# Altium schematic symbol library Supernova.SchLib: 142 symbols (part 1 of 2)
Pins are listed as number, name and electrical type; pins without a type are passive.

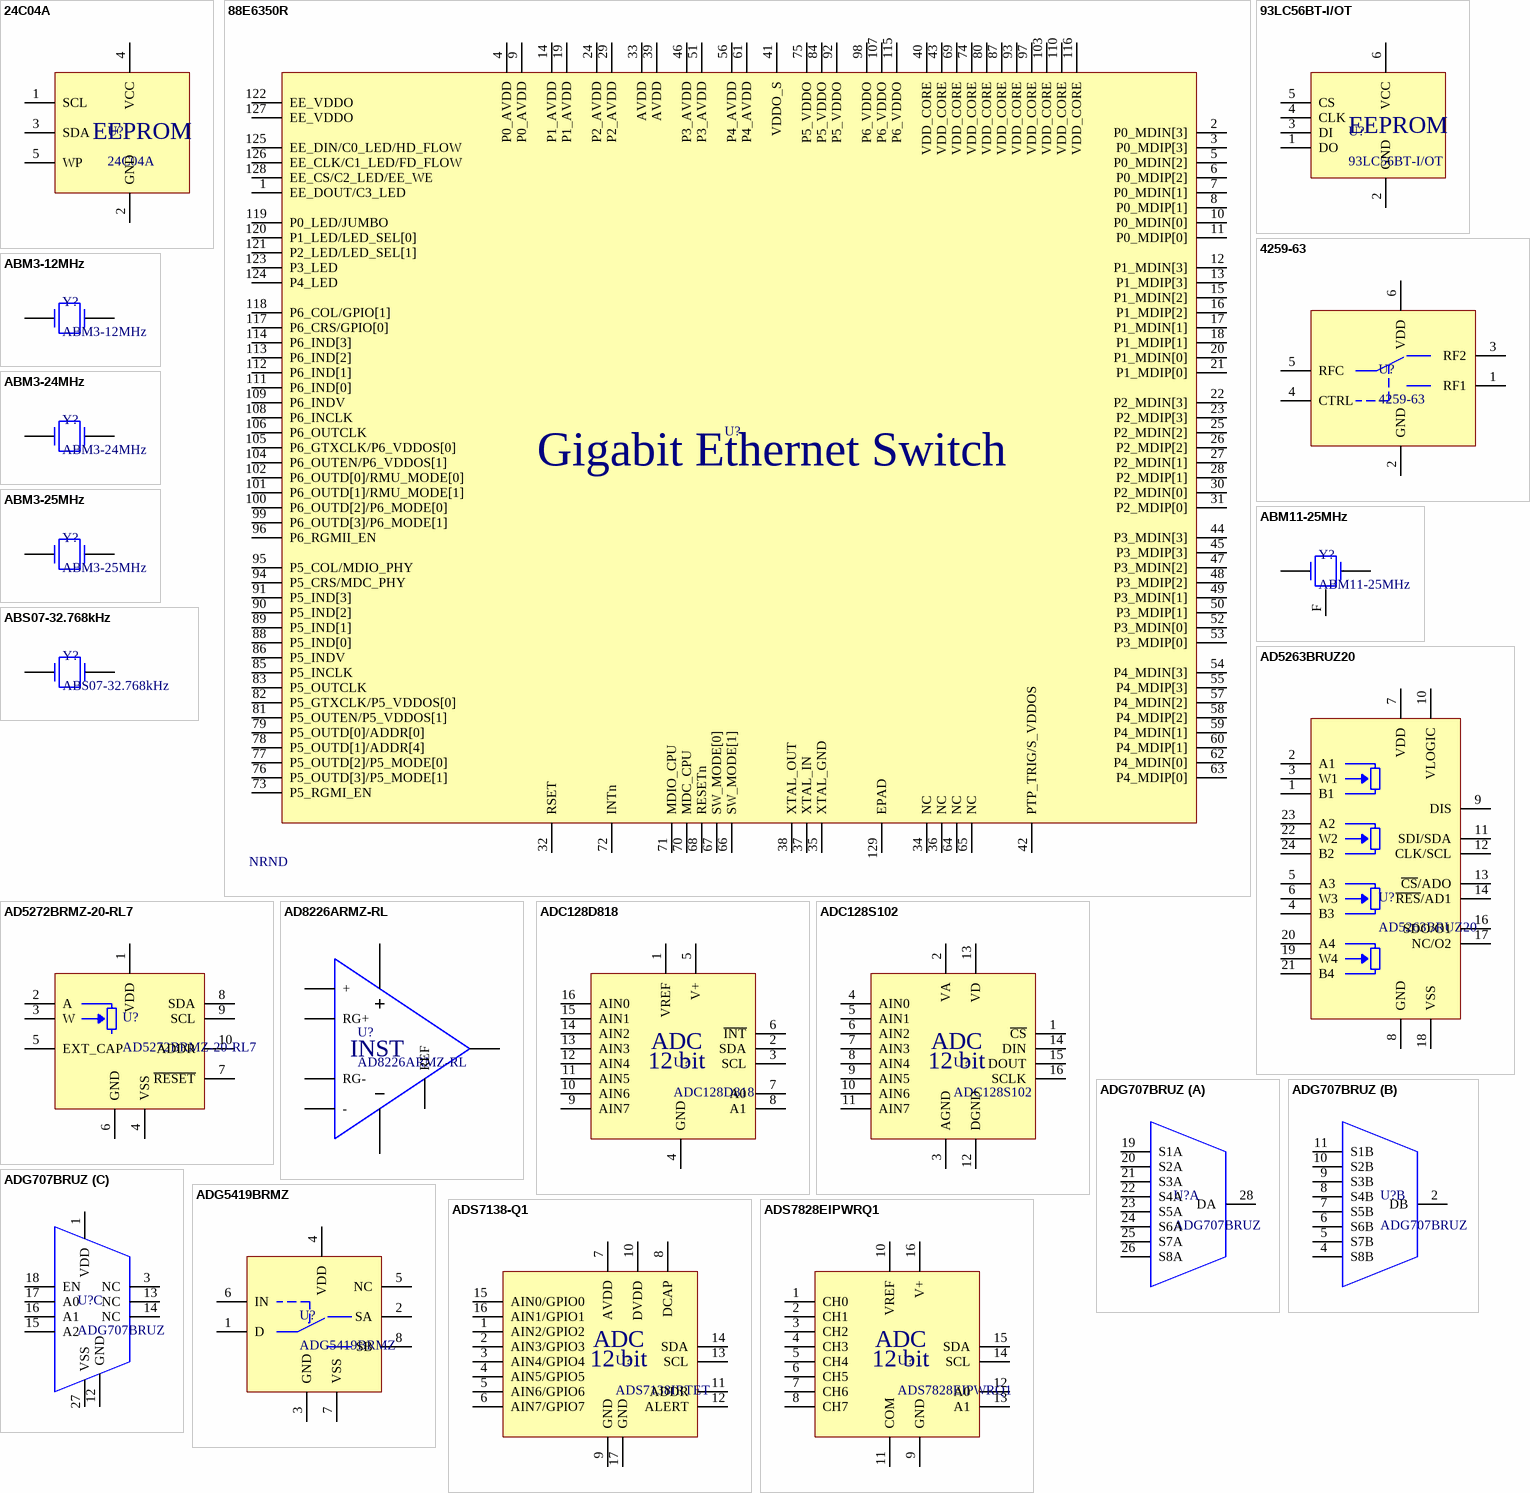
[diagram p0: symbols 24C04A to ADS7828EIPWRQ1]

## 24C04A
designator U?
IC Memory 4KB EEPROM; Supplier 1: Digi-Key; Supplier Part Number 1: 1219-1066-1-ND; Supplier 2: Digi-Key; Supplier 3: Digi-Key; Supplier Part Number 2: 1662-2727-1-ND; Supplier Part Number 3: AT24CS04-STUM-TCT-ND
footprint SOT23-5 (SOT23, 5-Leads, Body 2.90x2.45mm, Pitch 0.95mm, IPC Medium Density)
pins: 1 SCL, 2 GND, 3 SDA, 4 VCC, 5 WP
text: EEPROM

## 88E6350R
designator U?  (value not drawn)
IC Ethernet Switch, 5 port Gigabit; NRND: NRND
footprint LQFP-128 EP 0.4mm (TSQFP, 128-Leads, Body 14.00x14.00mm, Pitch 0.40mm, Thermal Pad 5.41x6.29mm, IPC Medium Density)
pins: 1 EE_DOUT/C3_LED, 2 P0_MDIN[3], 3 P0_MDIP[3], 4 P0_AVDD, 5 P0_MDIN[2], 6 P0_MDIP[2], 7 P0_MDIN[1], 8 P0_MDIP[1], 9 P0_AVDD, 10 P0_MDIN[0], 11 P0_MDIP[0], 12 P1_MDIN[3], 13 P1_MDIP[3], 14 P1_AVDD, 15 P1_MDIN[2], 16 P1_MDIP[2], 17 P1_MDIN[1], 18 P1_MDIP[1], 19 P1_AVDD, 20 P1_MDIN[0], 21 P1_MDIP[0], 22 P2_MDIN[3], 23 P2_MDIP[3], 24 P2_AVDD, 25 P2_MDIN[2], 26 P2_MDIP[2], 27 P2_MDIN[1], 28 P2_MDIP[1], 29 P2_AVDD, 30 P2_MDIN[0], 31 P2_MDIP[0], 32 RSET, 33 AVDD, 34 NC, 35 XTAL_GND, 36 NC, 37 XTAL_IN, 38 XTAL_OUT, 39 AVDD, 40 VDD_CORE, 41 VDDO_S, 42 PTP_TRIG/S_VDDOS, 43 VDD_CORE, 44 P3_MDIN[3], 45 P3_MDIP[3], 46 P3_AVDD, 47 P3_MDIN[2], 48 P3_MDIP[2], 49 P3_MDIN[1], 50 P3_MDIP[1], 51 P3_AVDD, 52 P3_MDIN[0], 53 P3_MDIP[0], 54 P4_MDIN[3], 55 P4_MDIP[3], 56 P4_AVDD, 57 P4_MDIN[2], 58 P4_MDIP[2], 59 P4_MDIN[1], 60 P4_MDIP[1], 61 P4_AVDD, 62 P4_MDIN[0], 63 P4_MDIP[0], 64 NC, 65 NC, 66 SW_MODE[1], 67 SW_MODE[0], 68 RESETn, 69 VDD_CORE, 70 MDC_CPU, 71 MDIO_CPU, 72 INTn, 73 P5_RGMI_EN, 74 VDD_CORE, 75 P5_VDDO, 76 P5_OUTD[3]/P5_MODE[1], 77 P5_OUTD[2]/P5_MODE[0], 78 P5_OUTD[1]/ADDR[4], 79 P5_OUTD[0]/ADDR[0], 80 VDD_CORE, 81 P5_OUTEN/P5_VDDOS[1], 82 P5_GTXCLK/P5_VDDOS[0], 83 P5_OUTCLK, 84 P5_VDDO, 85 P5_INCLK, 86 P5_INDV, 87 VDD_CORE, 88 P5_IND[0], 89 P5_IND[1], 90 P5_IND[2], 91 P5_IND[3], 92 P5_VDDO, 93 VDD_CORE, 94 P5_CRS/MDC_PHY, 95 P5_COL/MDIO_PHY, 96 P6_RGMII_EN, 97 VDD_CORE, 98 P6_VDDO, 99 P6_OUTD[3]/P6_MODE[1], 100 P6_OUTD[2]/P6_MODE[0], 101 P6_OUTD[1]/RMU_MODE[1], 102 P6_OUTD[0]/RMU_MODE[0], 103 VDD_CORE, 104 P6_OUTEN/P6_VDDOS[1], 105 P6_GTXCLK/P6_VDDOS[0], 106 P6_OUTCLK, 107 P6_VDDO, 108 P6_INCLK, 109 P6_INDV, 110 VDD_CORE, 111 P6_IND[0], 112 P6_IND[1], 113 P6_IND[2], 114 P6_IND[3], 115 P6_VDDO, 116 VDD_CORE, 117 P6_CRS/GPIO[0], 118 P6_COL/GPIO[1], 119 P0_LED/JUMBO, 120 P1_LED/LED_SEL[0], 121 P2_LED/LED_SEL[1], 122 EE_VDDO, 123 P3_LED, 124 P4_LED, 125 EE_DIN/C0_LED/HD_FLOW, 126 EE_CLK/C1_LED/FD_FLOW, 127 EE_VDDO, 128 EE_CS/C2_LED/EE_WE, 129 EPAD
text: Gigabit Ethernet Switch

## 93LC56BT-I/OT
designator U?
IC Memory EEPROM 2Kbit; Supplier 1: Digi-Key; Supplier Part Number 1: 93LC56BT-I/OTCT-ND; Supplier 2: Digi-Key; Supplier Part Number 2: 93AA56BT-I/OTCT-ND
footprint SOT23-6 (SOT23, 6-Leads, Body 2.90x2.45mm, Pitch 0.95mm, IPC Medium Density)
pins: 1 DO, 2 GND, 3 DI, 4 CLK, 5 CS, 6 VCC
text: EEPROM

## 4259-63
designator U?
IC RF Switch SPDT; Supplier 1: Digi-Key; Supplier 2: Digi-Key; Supplier Part Number 1: 1046-1011-1-ND; Supplier Part Number 2: 1046-1061-1-ND
footprint SC-70-6 (SOT23, 6-Leads, Body 2.00x2.10mm, Pitch 0.65mm, IPC Medium Density)
pins: 1 RF1, 2 GND, 3 RF2, 4 CTRL, 5 RFC, 6 VDD

## ABM3-12MHz
designator Y?
Crystal 12MHz; Supplier 1: Digi-Key; Supplier Part Number 1: 535-10634-1-ND; Supplier 2: Mouser; Supplier 3: Newark; Supplier Part Number 2: 815-ABM3-12-D2Y-T; Supplier Part Number 3: 06X4680
footprint ABM3
pins: 1, 2 1

## ABM3-24MHz
designator Y?
Crystal 24MHz; Supplier 1: Mouser; Supplier 2: Digi-Key; Supplier Part Number 1: 815-ABM3-24-D2Y-T; Supplier Part Number 2: 535-10643-1-ND
footprint ABM3
pins: 1, 2 1

## ABM3-25MHz
designator Y?
Crystal 25MHz; Supplier 1: Digi-Key; Supplier Part Number 1: 535-10645-1-ND; Supplier 2: Mouser; Supplier Part Number 2: 815-ABM3-25-D2Y-T; Supplier 3: Newark; Supplier Part Number 3: 77R1477; Supplier 4: Digi-Key; Supplier Part Number 4: XC2099CT-ND; Supplier 5: Digi-Key; Supplier Part Number 5: CTX1175CT-ND
footprint ABM3
pins: 1, 2 1

## ABM11-25MHz
designator Y?
Crystal 25MHz; Supplier 1: Digi-Key; Supplier Part Number 1: 535-10941-1-ND; Supplier 2: Digi-Key; Supplier Part Number 2: 535-13373-1-ND
footprint ABM11
pins: 1, 3 1, F 1

## ABS07-32.768kHz
designator Y?
Crystal 32.768kHz; Supplier 1: Digi-Key; Supplier 2: Digi-Key; Supplier Part Number 1: 535-9808-1-ND; Supplier Part Number 2: 535-9542-1-ND
footprint ABS07
pins: 1, 3 1

## AD5263BRUZ20
designator U?
IC Digital Potentiometer Quad; Supplier 1: Digi-Key; Supplier Part Number 1: AD5263BRUZ20-ND; Supplier 2: Digi-Key; Supplier Part Number 2: AD5263BRUZ20-REEL7CT-ND; Supplier 3: Mouser; Supplier 4: Mouser; Supplier Part Number 3: 584-AD5263BRUZ20; Supplier Part Number 4: 584-AD5263BRUZ20-R7
footprint TSOP-24 0.65mm (TSOP, 24-Leads, Body 7.80x4.40mm, Pitch 0.65mm, IPC Medium Density)
pins: 1 B1, 2 A1, 3 W1, 4 B3, 5 A3, 6 W3, 7 VDD, 8 GND, 9 DIS, 10 VLOGIC, 11 SDI/SDA, 12 CLK/SCL, 13 ~{CS}/ADO, 14 ~{RES}/AD1, 16 SDO/O1, 17 NC/O2, 18 VSS, 19 W4, 20 A4, 21 B4, 22 W2, 23 A2, 24 B2

## AD5272BRMZ-20-RL7
designator U?
IC Digital Potentiometer Single; Supplier 1: Digi-Key; Supplier 2: Digi-Key; Supplier Part Number 1: AD5272BRMZ-20-ND; Supplier Part Number 2: AD5272BRMZ-20-RL7CT-ND
footprint MSOP-10 0.5mm (TSSOP, 10-Leads, Body 3.00x3.00mm, Pitch 0.50mm, IPC Medium Density)
pins: 1 VDD, 2 A, 3 W, 4 VSS, 5 EXT_CAP, 6 GND, 7 ~{RESET}, 8 SDA, 9 SCL, 10 ADDR

## AD8226ARMZ-RL
designator U?
IC Instrumentation Amp; Supplier 1: Digi-Key; Supplier 2: Mouser; Supplier Part Number 1: AD8226ARMZ-RLCT-ND; Supplier Part Number 2: 584-AD8226ARMZ-R
footprint TSOP-8 0.65mm (TSOP, 8-Leads, Body 3.00x3.00mm, Pitch 0.65mm, IPC Medium Density)
pins: 1 -, 2 RG-, 3 RG+, 4 +, 5 4, 6 REF, 7 1, 8
text: INST

## ADC128D818
designator U?
IC ADC 12 bit 8 input I2C; Supplier 1: Digi-Key; Supplier Part Number 1: ADC128D818CIMT/NOPB-ND; Supplier 2: Digi-Key; Supplier Part Number 2: 296-41182-1-ND; Supplier 3: Mouser; Supplier Part Number 3: 926-A128D818CIMTXNPB
footprint TSOP-16 0.65mm
pins: 1 VREF, 2 SDA, 3 SCL, 4 GND, 5 V+, 6 ~{INT}, 7 A0, 8 A1, 9 AIN7, 10 AIN6, 11 AIN5, 12 AIN4, 13 AIN3, 14 AIN2, 15 AIN1, 16 AIN0
text: ADC; 12 bit

## ADC128S102
designator U?
IC ADC 12 bit 8 input SPI; Supplier 1: Digi-Key; Supplier 2: Digi-Key; Supplier Part Number 1: 296-41184-1-ND; Supplier Part Number 2: ADC128S102CIMT/NOPB-ND
footprint TSOP-16 0.65mm
pins: 1 ~{CS}, 2 VA, 3 AGND, 4 AIN0, 5 AIN1, 6 AIN2, 7 AIN3, 8 AIN4, 9 AIN5, 10 AIN6, 11 AIN7, 12 DGND, 13 VD, 14 DIN, 15 DOUT, 16 SCLK
text: ADC; 12 bit

## ADG707BRUZ
designator U?
IC Multiplexer 2x 8:1; Supplier 1: Digi-Key; Supplier Part Number 1: ADG707BRUZ-ND; Supplier 2: Digi-Key; Supplier 3: Mouser; Supplier 4: Mouser; Supplier Part Number 2: ADG707BRUZ-REEL7CT-ND; Supplier Part Number 3: 584-ADG707BRUZ; Supplier Part Number 4: 584-ADG707BRUZ-R7
footprint TSOP-28 0.65mm (TSOP, 28-Leads, Body 9.70x4.40mm, Pitch 0.65mm, IPC Medium Density)
part A pins: 19 S1A, 20 S2A, 21 S3A, 22 S4A, 23 S5A, 24 S6A, 25 S7A, 26 S8A, 28 DA
part B pins: 2 DB, 4 S8B, 5 S7B, 6 S6B, 7 S5B, 8 S4B, 9 S3B, 10 S2B, 11 S1B
part C pins: 1 VDD, 3 NC, 12 GND, 13 NC, 14 NC, 15 A2, 16 A1, 17 A0, 18 EN, 27 VSS

## ADG5419BRMZ
designator U?
IC Analog Switch SPDT; Supplier 1: Digi-Key; Supplier Part Number 1: ADG5419BRMZ-ND; Supplier 2: Digi-Key; Supplier 3: Digi-Key; Supplier 4: Digi-Key; Supplier Part Number 2: ADG5419BRMZ-RL7CT-ND; Supplier Part Number 3: MAX4659EUA+CT-ND; Supplier Part Number 4: MAX4659EUA+-ND
footprint TSOP-8 0.65mm (TSOP, 8-Leads, Body 3.00x3.00mm, Pitch 0.65mm, IPC Medium Density)
pins: 1 D, 2 SA, 3 GND, 4 VDD, 5 NC, 6 IN, 7 VSS, 8 SB

## ADS7138-Q1
designator U?, comment ADS7138IRTET
IC ADC 12 bit 8 input I2C 3Ms; Supplier 1: Digi-Key; Supplier Part Number 1: 296-ADS7138QRTERQ1CT-ND; Supplier 2: Digi-Key; Supplier Part Number 2: 296-ADS7138IRTETCT-ND
footprint QFN-16 0.5MM EP (QFN, 16-Leads, Body 3.00x3.00mm, Pitch 0.50mm, Thermal Pad 1.66x1.66mm, IPC Medium Density)
pins: 1 AIN2/GPIO2, 2 AIN3/GPIO3, 3 AIN4/GPIO4, 4 AIN5/GPIO5, 5 AIN6/GPIO6, 6 AIN7/GPIO7, 7 AVDD, 8 DCAP, 9 GND, 10 DVDD, 11 ADDR, 12 ALERT, 13 SCL, 14 SDA, 15 AIN0/GPIO0, 16 AIN1/GPIO1, 17 GND
text: ADC; 12 bit

## ADS7828EIPWRQ1
designator U?
IC ADC 12 bit 8 input I2C 50ks; Supplier 1: Digi-Key; Supplier Part Number 1: 296-24101-1-ND; Supplier 2: Mouser; Supplier Part Number 2: 595-ADS7828EIPWRQ1
footprint TSOP-16 0.65mm
pins: 1 CH0, 2 CH1, 3 CH2, 4 CH3, 5 CH4, 6 CH5, 7 CH6, 8 CH7, 9 GND, 10 VREF, 11 COM, 12 A0, 13 A1, 14 SCL, 15 SDA, 16 V+
text: ADC; 12 bit

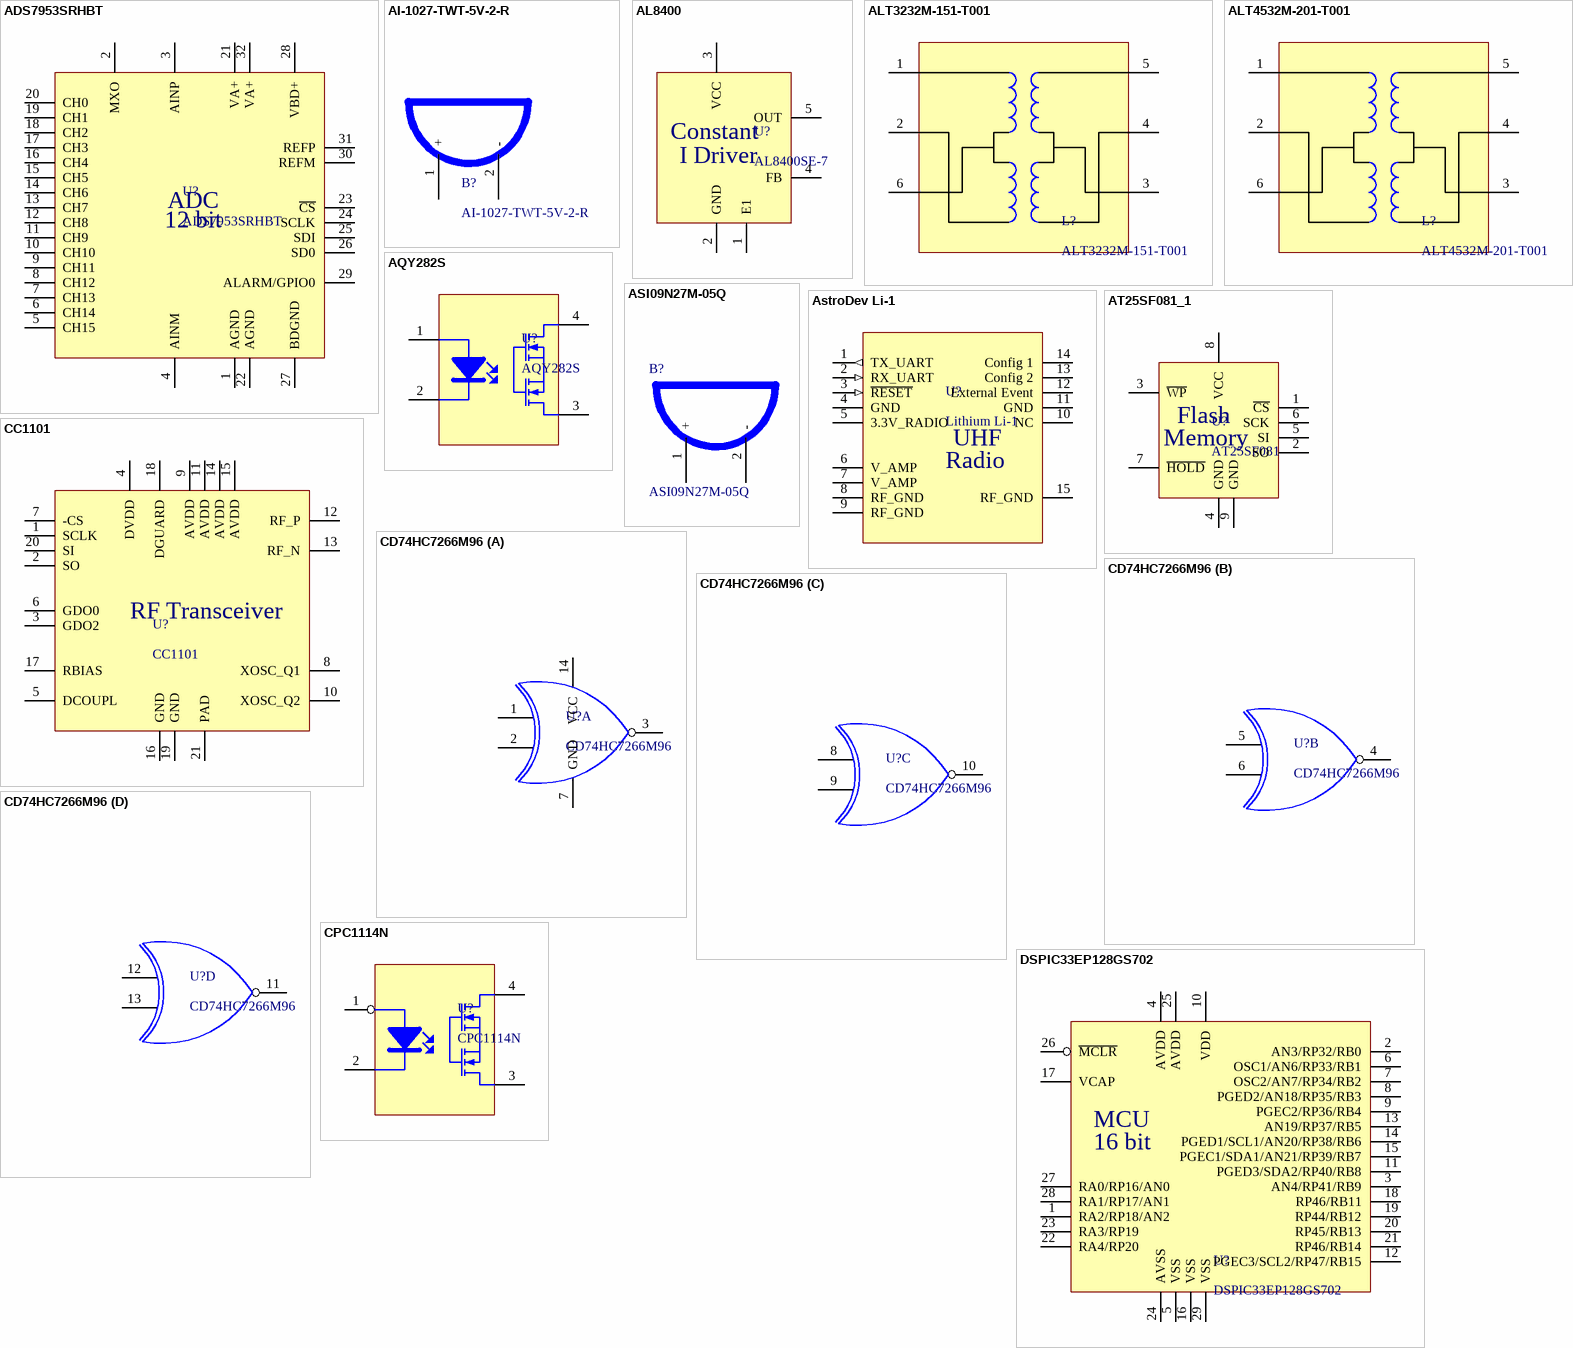
[diagram p1: symbols ADS7953SRHBT to DSPIC33EP128GS702]

## ADS7953SRHBT
designator U?
IC ADC 12 bit 16 input; Supplier 1: Digi-Key; Supplier 2: Digi-Key; Supplier 3: Digi-Key; Supplier Part Number 1: 296-25845-1-ND; Supplier Part Number 2: 296-25844-1-ND; Supplier Part Number 3: 296-ADS7953SBRHBRCT-ND
footprint QFN-32 EP 0.5mm (QFN, 32-Leads, Body 5.00x5.00mm, Pitch 0.50mm, Thermal Pad 3.10x3.10mm, IPC Medium Density)
pins: 1 AGND, 2 MXO, 3 AINP, 4 AINM, 5 CH15, 6 CH14, 7 CH13, 8 CH12, 9 CH11, 10 CH10, 11 CH9, 12 CH8, 13 CH7, 14 CH6, 15 CH5, 16 CH4, 17 CH3, 18 CH2, 19 CH1, 20 CH0, 21 VA+, 22 AGND, 23 ~{CS}, 24 SCLK, 25 SDI, 26 SD0, 27 BDGND, 28 VBD+, 29 ALARM/GPIO0, 30 REFM, 31 REFP, 32 VA+
text: ADC; 12 bit

## AI-1027-TWT-5V-2-R
designator B?
Buzzer DC; Supplier 1: Digi-Key; Supplier Part Number 1: 668-1454-ND; Supplier 2: Digi-Key; Supplier 3: Mouser; Supplier Part Number 2: 668-1339-ND; Supplier Part Number 3: 665-AI-1027TWT5VR
footprint AI-1027-TWT-5V-2-R
pins: 1 +, 2 -

## AL8400
designator U?, comment AL8400SE-7
IC Current sink; Supplier 1: Digi-Key; Supplier Part Number 1: AL8400SE-7DICT-ND; Supplier 2: Mouser; Supplier Part Number 2: 621-AL8400SE-7
footprint SC-70-5 (SOT23, 5-Leads, Body 2.00x2.10mm, Pitch 0.65mm, IPC Medium Density)
pins: 1 E1, 2 GND, 3 VCC, 4 FB, 5 OUT
text: Constant; I Driver

## ALT3232M-151-T001
designator L?
Isolator 100bT Miniature Pulse Transformer; Supplier 1: Digi-Key; Supplier 2: Mouser; Supplier Part Number 1: 445-174375-1-ND; Supplier Part Number 2: 810-ALT3232M151T001
footprint ALT3232M-201-T001
pins: 1 TD+, 2 TD-, 3 MCT, 4 MX-, 5 MX+, 6 TCT

## ALT4532M-201-T001
designator L?
Isolator 100bT Miniature Pulse Transformer; Supplier 1: Digi-Key; Supplier 2: Mouser; Supplier Part Number 1: 445-15085-1-ND; Supplier Part Number 2: 810-ALT4532M201-T001
footprint ALT4532M-201-T001
pins: 1 TD+, 2 TD-, 3 MCT, 4 MX-, 5 MX+, 6 TCT

## AQY282S
designator U?
Isolator PhotoMOS; Supplier 1: Digi-Key; Supplier Part Number 1: 255-1795-5-ND; Supplier 2: Digi-Key; Supplier Part Number 2: 255-3393-2-ND; Supplier 3: RSComponents; Supplier Part Number 3: 8113306; Supplier 4: Digi-Key; Supplier Part Number 4: 255-2898-ND; Supplier 5: RSComponents; Supplier Part Number 5: 2056908; Supplier 6: Mouser; Supplier Part Number 6: 769-AQY222R1S
footprint SOP-4 (SOP, 4-Leads, Body 4.78x6.40mm, Pitch 2.54mm, IPC Medium Density)
pins: 1, 2, 3, 4

## ASI09N27M-05Q
designator B?
Buzzer DC SMD; Supplier 1: Digi-Key; Supplier 2: Mouser; Supplier Part Number 1: 458-1331-ND; Supplier Part Number 2: 539-ASI09N27M-05Q
footprint ASI09N27M-05Q (Footprint not found)
pins: 1 +, 2 -

## AstroDev Li-1
designator U?, comment Lithium Li-1  (no BOM)
Radio Astrodev Lithium Li-1; Manufacturer 1: AstroDev; Manufacturer Part Number 1: Li-1
footprint Lithium L-1 radio
footprint LITHIUM L-1 radio - springs
footprint LITHIUM L-1 Radio REVB
pins: 1 TX_UART (out), 2 RX_UART (in), 3 ~{RESET} (in), 4 GND (power), 5 3.3V_RADIO (power), 6 V_AMP (power), 7 V_AMP (power), 8 RF_GND (power), 9 RF_GND (power), 10 NC, 11 GND, 12 External Event, 13 Config 2, 14 Config 1, 15 RF_GND (power)
text: UHF; Radio

## AT25SF081_1
designator U?, comment AT25SF081
IC Memory FLASH 8Mb; Supplier 1: Digi-Key; Supplier 2: Digi-Key; Supplier Part Number 1: 1265-1275-1-ND; Supplier Part Number 2: 1265-1294-1-ND
footprint SON-8 0.5mm EP (SON, 8-Leads, Body 2.00x3.00mm, Pitch 0.50mm, Thermal Pad 1.60x0.20mm, IPC Medium Density)
pins: 1 ~{CS}, 2 SO, 3 ~{WP}, 4 GND, 5 SI, 6 SCK, 7 ~{HOLD}, 8 VCC, 9 GND
text: Flash; Memory

## CC1101
designator U?
IC RF Transceiver; Supplier 1: Digi-Key; Supplier 2: Digi-Key; Supplier Part Number 1: 296-38888-5-ND; Supplier Part Number 2: 296-35718-1-ND
footprint QFN-20 0.5mm (PQFN, 20-Leads, Body 4.00x4.00mm, Pitch 0.50mm, Thermal Pad 2.30x2.30mm, IPC Medium Density)
pins: 1 SCLK, 2 SO, 3 GDO2, 4 DVDD, 5 DCOUPL, 6 GDO0, 7 -CS, 8 XOSC_Q1, 9 AVDD, 10 XOSC_Q2, 11 AVDD, 12 RF_P, 13 RF_N, 14 AVDD, 15 AVDD, 16 GND, 17 RBIAS, 18 DGUARD, 19 GND, 20 SI, 21 PAD
text: RF Transceiver

## CD74HC7266M96
designator U?
IC Logic XNOR 4 channel; Supplier 1: Digi-Key; Supplier Part Number 1: 296-28580-1-ND; Supplier 2: Digi-Key; Supplier 3: Digi-Key; Supplier Part Number 2: 296-9239-5-ND; Supplier Part Number 3: 296-28581-1-ND
footprint SOIC-14 (SOIC, 14-Leads, Body 9.90x3.90mm, Pitch 1.27mm, IPC Medium Density)
part A pins: 1 1A, 2 1B, 3 -(A^B), 7 GND, 14 VCC
part B pins: 4 -(A^B), 5 1A, 6 1B
part C pins: 8 1A, 9 1B, 10 -(A^B)
part D pins: 11 -(A^B), 12 1A, 13 1B

## CPC1114N
designator U?
Isolator OptoMOS NC; Supplier 1: Digi-Key; Supplier Part Number 1: CPC1114N-ND; Supplier 2: Digi-Key; Supplier Part Number 2: 212-CPC1114NCT-ND
footprint SOP-4 3.81MM (SOP, 4-Leads, Body 4.09x3.81mm, Pitch 2.54mm, IPC Medium Density)
pins: 1, 2, 3, 4

## DSPIC33EP128GS702
designator U?
IC Processor 16 bit; Supplier 1: Digi-Key; Supplier 2: Digi-Key; Supplier Part Number 1: DSPIC33EP128GS702T-I/MMCT-ND; Supplier Part Number 2: DSPIC33EP128GS702T-I/2NCT-ND
footprint QFN-28 EP 0.65mm with corners (QFN, 28-Leads, Body 6.00x6.00mm, Pitch 0.65mm, Thermal Pad 4.20x4.20mm, IPC Medium Density)
pins: 1 RA2/RP18/AN2, 2 AN3/RP32/RB0, 3 AN4/RP41/RB9, 4 AVDD, 5 VSS, 6 OSC1/AN6/RP33/RB1, 7 OSC2/AN7/RP34/RB2, 8 PGED2/AN18/RP35/RB3, 9 PGEC2/RP36/RB4, 10 VDD, 11 PGED3/SDA2/RP40/RB8, 12 PGEC3/SCL2/RP47/RB15, 13 AN19/RP37/RB5, 14 PGED1/SCL1/AN20/RP38/RB6, 15 PGEC1/SDA1/AN21/RP39/RB7, 16 VSS, 17 VCAP, 18 RP46/RB11, 19 RP44/RB12, 20 RP45/RB13, 21 RP46/RB14, 22 RA4/RP20, 23 RA3/RP19, 24 AVSS, 25 AVDD, 26 ~{MCLR}, 27 RA0/RP16/AN0, 28 RA1/RP17/AN1, 29 VSS
text: MCU; 16 bit

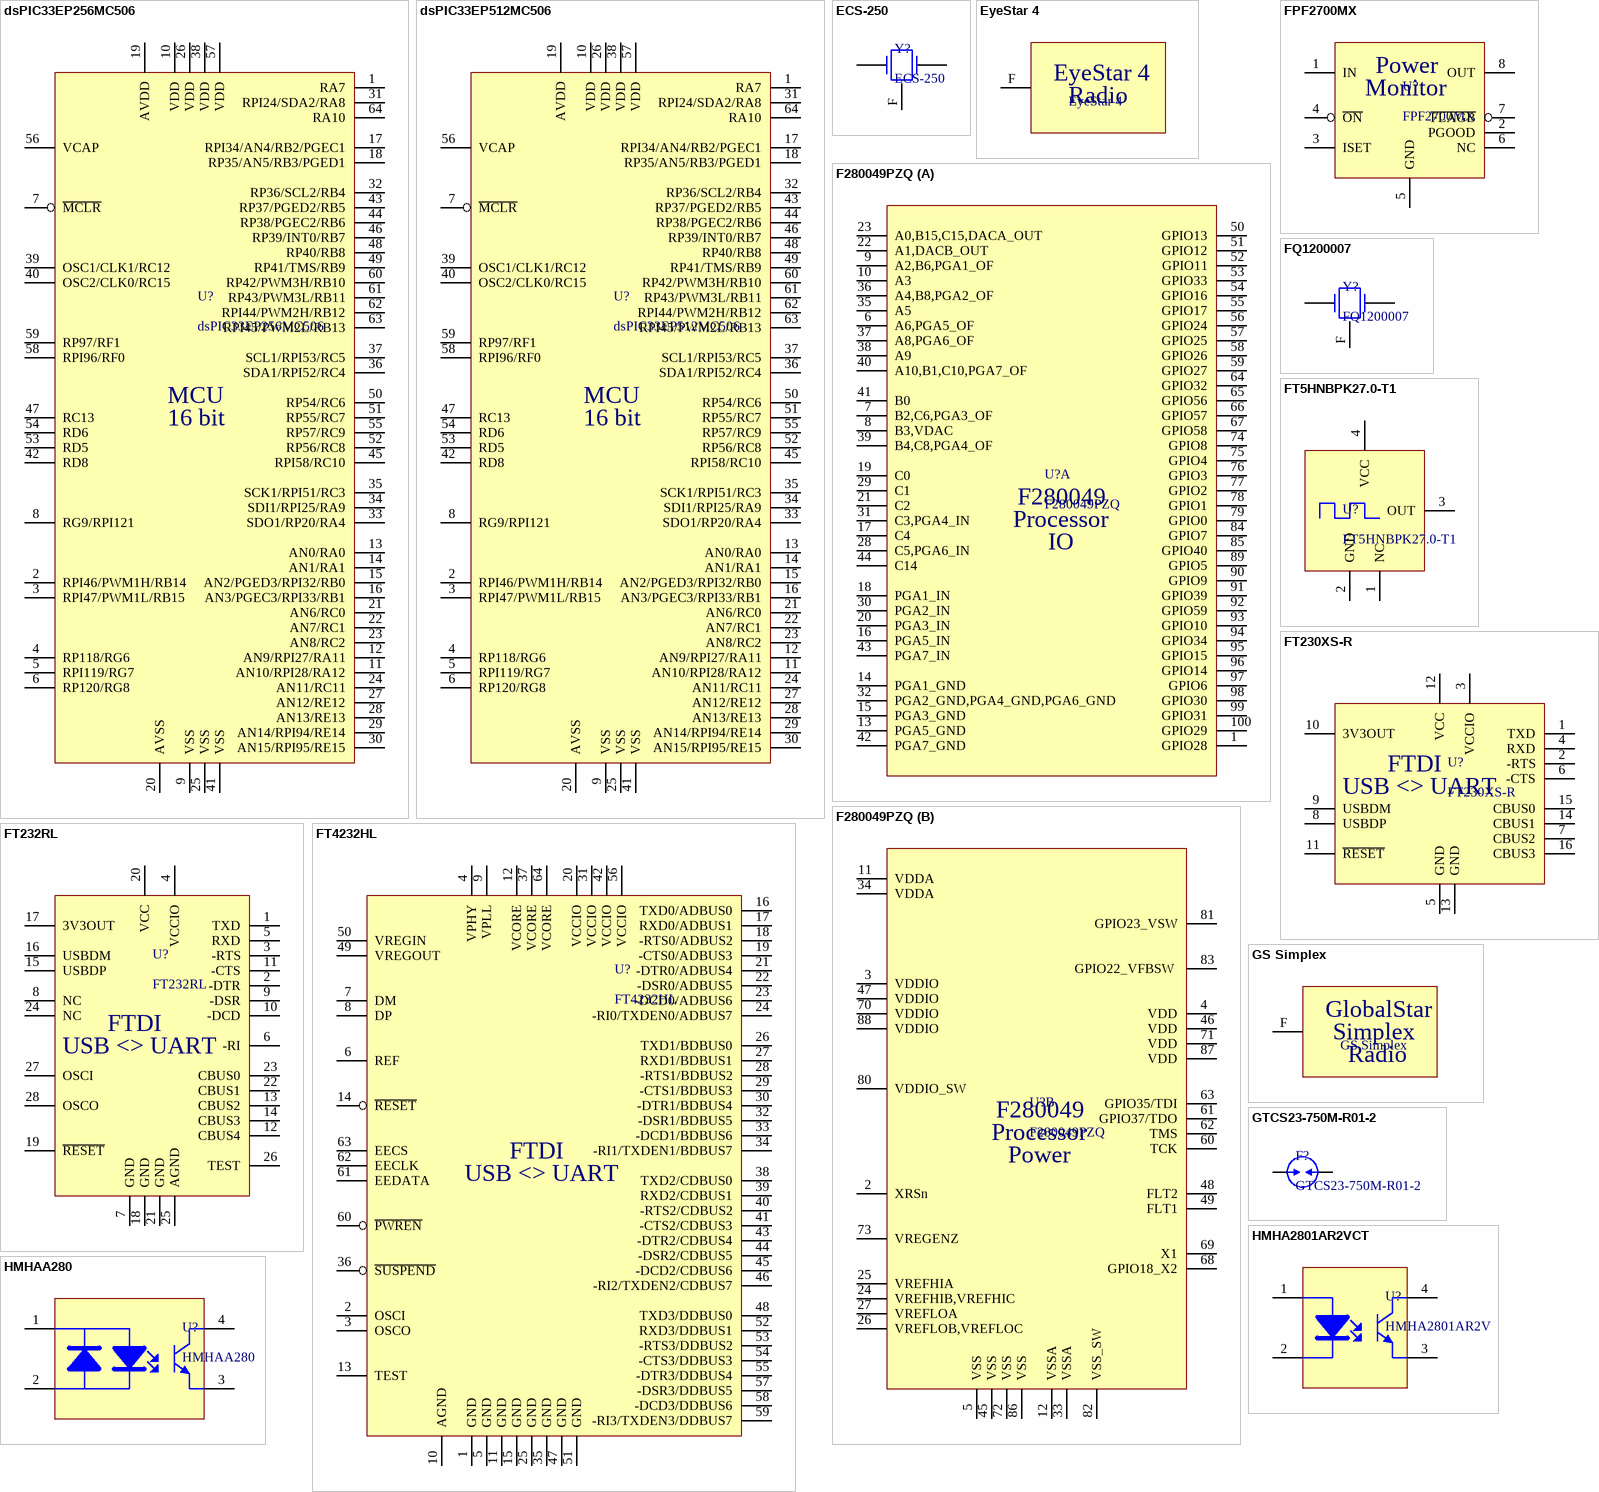
[diagram p2: symbols dsPIC33EP256MC506 to HMHAA280]

## dsPIC33EP256MC506
designator U?
IC Processor 16 bit; Mass_g: 0.3606; Supplier 1: Mouser; Supplier Part Number 1: 579-PC33256MC506IPT; Supplier 2: Digi-Key; Supplier Part Number 2: DSPIC33EP256MC506-I/PT-ND
footprint LQFP-64 0.5mm (TSQFP, 64-Leads, Body 10.00x10.00mm, Pitch 0.50mm, Thermal Pad 5.41x6.29mm, IPC Medium Density)
pins: 1 RA7, 2 RPI46/PWM1H/RB14, 3 RPI47/PWM1L/RB15, 4 RP118/RG6, 5 RPI119/RG7, 6 RP120/RG8, 7 ~{MCLR}, 8 RG9/RPI121, 9 VSS, 10 VDD, 11 AN10/RPI28/RA12, 12 AN9/RPI27/RA11, 13 AN0/RA0, 14 AN1/RA1, 15 AN2/PGED3/RPI32/RB0, 16 AN3/PGEC3/RPI33/RB1, 17 RPI34/AN4/RB2/PGEC1, 18 RP35/AN5/RB3/PGED1, 19 AVDD, 20 AVSS, 21 AN6/RC0, 22 AN7/RC1, 23 AN8/RC2, 24 AN11/RC11, 25 VSS, 26 VDD, 27 AN12/RE12, 28 AN13/RE13, 29 AN14/RPI94/RE14, 30 AN15/RPI95/RE15, 31 RPI24/SDA2/RA8, 32 RP36/SCL2/RB4, 33 SDO1/RP20/RA4, 34 SDI1/RPI25/RA9, 35 SCK1/RPI51/RC3, 36 SDA1/RPI52/RC4, 37 SCL1/RPI53/RC5, 38 VDD, 39 OSC1/CLK1/RC12, 40 OSC2/CLK0/RC15, 41 VSS, 42 RD8, 43 RP37/PGED2/RB5, 44 RP38/PGEC2/RB6, 45 RPI58/RC10, 46 RP39/INT0/RB7, 47 RC13, 48 RP40/RB8, 49 RP41/TMS/RB9, 50 RP54/RC6, 51 RP55/RC7, 52 RP56/RC8, 53 RD5, 54 RD6, 55 RP57/RC9, 56 VCAP, 57 VDD, 58 RPI96/RF0, 59 RP97/RF1, 60 RP42/PWM3H/RB10, 61 RP43/PWM3L/RB11, 62 RPI44/PWM2H/RB12, 63 RPI45/PWM2L/RB13, 64 RA10
text: MCU; 16 bit

## dsPIC33EP512MC506
designator U?
IC Processor 16 bit; Mass_g: 0.3606; Supplier 1: RSComponents; Supplier Part Number 1: 7990152; Supplier 2: Mouser; Supplier Part Number 2: 579-33EP512MC506IPT; Supplier 3: Digi-Key; Supplier Part Number 3: DSPIC33EP512MC506-I/PT-ND
footprint LQFP-64 0.5mm (TSQFP, 64-Leads, Body 10.00x10.00mm, Pitch 0.50mm, Thermal Pad 5.41x6.29mm, IPC Medium Density)
pins: 1 RA7, 2 RPI46/PWM1H/RB14, 3 RPI47/PWM1L/RB15, 4 RP118/RG6, 5 RPI119/RG7, 6 RP120/RG8, 7 ~{MCLR}, 8 RG9/RPI121, 9 VSS, 10 VDD, 11 AN10/RPI28/RA12, 12 AN9/RPI27/RA11, 13 AN0/RA0, 14 AN1/RA1, 15 AN2/PGED3/RPI32/RB0, 16 AN3/PGEC3/RPI33/RB1, 17 RPI34/AN4/RB2/PGEC1, 18 RP35/AN5/RB3/PGED1, 19 AVDD, 20 AVSS, 21 AN6/RC0, 22 AN7/RC1, 23 AN8/RC2, 24 AN11/RC11, 25 VSS, 26 VDD, 27 AN12/RE12, 28 AN13/RE13, 29 AN14/RPI94/RE14, 30 AN15/RPI95/RE15, 31 RPI24/SDA2/RA8, 32 RP36/SCL2/RB4, 33 SDO1/RP20/RA4, 34 SDI1/RPI25/RA9, 35 SCK1/RPI51/RC3, 36 SDA1/RPI52/RC4, 37 SCL1/RPI53/RC5, 38 VDD, 39 OSC1/CLK1/RC12, 40 OSC2/CLK0/RC15, 41 VSS, 42 RD8, 43 RP37/PGED2/RB5, 44 RP38/PGEC2/RB6, 45 RPI58/RC10, 46 RP39/INT0/RB7, 47 RC13, 48 RP40/RB8, 49 RP41/TMS/RB9, 50 RP54/RC6, 51 RP55/RC7, 52 RP56/RC8, 53 RD5, 54 RD6, 55 RP57/RC9, 56 VCAP, 57 VDD, 58 RPI96/RF0, 59 RP97/RF1, 60 RP42/PWM3H/RB10, 61 RP43/PWM3L/RB11, 62 RPI44/PWM2H/RB12, 63 RPI45/PWM2L/RB13, 64 RA10
text: MCU; 16 bit

## ECS-250
designator Y?
Crystal 35MHz; Supplier 1: Digi-Key; Supplier Part Number 1: XC1843CT-ND; Supplier 2: Digi-Key; Supplier Part Number 2: 887-1306-1-ND
footprint ECX-53B
pins: 1, 3 1, F 1

## EyeStar 4
designator U?  (no BOM)
Radio EyeStar 4
footprint Eyestar 4
footprint Eyestar 4 - No Silk
pins: F
text: Radio

## F280049PZQ
designator U?
IC Processor C2000 Piccolo; Supplier 1: Digi-Key; Supplier 2: Digi-Key; Supplier Part Number 1: 296-F280049PZQRCT-ND; Supplier Part Number 2: 296-F280049PZQ-ND
footprint LQFP-100 0.5mm (TSQFP, 100-Leads, Body 14.00x14.00mm, Pitch 0.50mm, IPC Medium Density)
part A pins: 1 GPIO28, 6 A6,PGA5_OF, 7 B2,C6,PGA3_OF, 8 B3,VDAC, 9 A2,B6,PGA1_OF, 10 A3, 13 PGA5_GND, 14 PGA1_GND, 15 PGA3_GND, 16 PGA5_IN, 17 C4, 18 PGA1_IN, 19 C0, 20 PGA3_IN, 21 C2, 22 A1,DACB_OUT, 23 A0,B15,C15,DACA_OUT, 28 C5,PGA6_IN , 29 C1, 30 PGA2_IN, 31 C3,PGA4_IN, 32 PGA2_GND,PGA4_GND,PGA6_GND, 35 A5, 36 A4,B8,PGA2_OF , 37 A8,PGA6_OF , 38 A9, 39 B4,C8,PGA4_OF , 40 A10,B1,C10,PGA7_OF, 41 B0, 42 PGA7_GND, 43 PGA7_IN, 44 C14, 50 GPIO13, 51 GPIO12, 52 GPIO11, 53 GPIO33, 54 GPIO16, 55 GPIO17, 56 GPIO24, 57 GPIO25, 58 GPIO26, 59 GPIO27, 64 GPIO32, 65 GPIO56, 66 GPIO57, 67 GPIO58, 74 GPIO8, 75 GPIO4, 76 GPIO3, 77 GPIO2, 78 GPIO1, 79 GPIO0, 84 GPIO7, 85 GPIO40, 89 GPIO5, 90 GPIO9, 91 GPIO39, 92 GPIO59, 93 GPIO10, 94 GPIO34, 95 GPIO15, 96 GPIO14, 97 GPIO6, 98 GPIO30, 99 GPIO31, 100 GPIO29
part B pins: 2 XRSn, 3 VDDIO, 4 VDD, 5 VSS, 11 VDDA, 12 VSSA, 24 VREFHIB,VREFHIC, 25 VREFHIA, 26 VREFLOB,VREFLOC, 27 VREFLOA, 33 VSSA, 34 VDDA, 45 VSS, 46 VDD, 47 VDDIO, 48 FLT2, 49 FLT1, 60 TCK, 61 GPIO37/TDO, 62 TMS, 63 GPIO35/TDI, 68 GPIO18_X2, 69 X1, 70 VDDIO, 71 VDD, 72 VSS, 73 VREGENZ, 80 VDDIO_SW, 81 GPIO23_VSW, 82 VSS_SW, 83 GPIO22_VFBSW , 86 VSS, 87 VDD, 88 VDDIO
part A text: F280049; Processor; IO
part B text: F280049; Processor; Power

## FPF2700MX
designator U?
IC Power Monitor 36V; Supplier 1: Digi-Key; Supplier Part Number 1: FPF2700MXDKR-ND; Supplier 2: Mouser; Supplier Part Number 2: 512-FPF2700MX
footprint SOIC-8 (SOIC, 8-Leads, Body 4.90x3.90mm, Pitch 1.27mm, IPC Medium Density)
pins: 1 IN, 2 PGOOD, 3 ISET, 4 ~{ON} (hiz), 5 GND, 6 NC, 7 ~{FLAGB}, 8 OUT
text: Power; Monitor

## FQ1200007
designator Y?
Crystal 12MHz; Supplier 1: Digi-Key; Supplier Part Number 1: FQ1200007CT-ND; Supplier 2: Digi-Key; Supplier Part Number 2: 535-10261-1-ND; Supplier 3: Digi-Key; Supplier Part Number 3: 535-14128-1-ND; Supplier 4: Mouser; Supplier Part Number 4: 710-830055295; Supplier 5: DigiKey; Supplier Part Number 5: 732-830055295CT-ND; Supplier 6: DigiKey; Supplier Part Number 6: 732-830070868CT-ND; Supplier 7: DigiKey; Supplier Part Number 7: 732-830055295CT-ND; Supplier 8: DigiKey; Supplier Part Number 8: 732-830070868CT-ND; Supplier 9: Digi-Key; Supplier Part Number 9: 732-830055295CT-ND
footprint FQ Crystal
pins: 1, 3 1, F 1

## FT5HNBPK27.0-T1
designator U?  (no BOM)
TCXO 27MHz; Supplier 1: Digi-Key; Supplier 2: Digi-Key; Supplier Part Number 1: 631-1075-1-ND; Supplier Part Number 2: XC2071CT-ND; NRND: NRND
footprint DFN-4 1.25mm (DFN, 4-Leads, Body 3.20x5.00mm, Pitch 1.25mm, IPC Medium Density)
pins: 1 NC, 2 GND, 3 OUT, 4 VCC

## FT230XS-R
designator U?
IC Interface FTDI; Supplier 1: Digi-Key; Supplier Part Number 1: 768-1135-1-ND; Supplier 2: Mouser; Supplier 3: Digi-Key; Supplier 4: Mouser; Supplier Part Number 2: 895-FT230XS-R; Supplier Part Number 3: 768-1154-5-ND; Supplier Part Number 4: 895-FT230XS-U
footprint TSOP-16 0.65mm
pins: 1 TXD, 2 -RTS, 3 VCCIO, 4 RXD, 5 GND, 6 -CTS, 7 CBUS2, 8 USBDP, 9 USBDM, 10 3V3OUT, 11 ~{RESET}, 12 VCC, 13 GND, 14 CBUS1, 15 CBUS0, 16 CBUS3
text: FTDI; USB <> UART

## FT232RL
designator U?
IC Interface FTDI; Supplier 1: Digi-Key; Supplier 2: Digi-Key; Supplier Part Number 1: 768-1306-ND; Supplier Part Number 2: 768-1007-1-ND
footprint SOP-28 0.65mm (SOP, 28-Leads, Body 10.20x5.30mm, Pitch 0.65mm, Thermal Pad 3.50x2.80mm, IPC Medium Density)
pins: 1 TXD, 2 -DTR, 3 -RTS, 4 VCCIO, 5 RXD, 6 -RI, 7 GND, 8 NC, 9 -DSR, 10 -DCD, 11 -CTS, 12 CBUS4, 13 CBUS2, 14 CBUS3, 15 USBDP, 16 USBDM, 17 3V3OUT, 18 GND, 19 ~{RESET}, 20 VCC, 21 GND, 22 CBUS1, 23 CBUS0, 24 NC, 25 AGND, 26 TEST, 27 OSCI, 28 OSCO
text: FTDI; USB <> UART

## FT4232HL
designator U?
IC FTDI 4 port controller; Supplier 1: Digi-Key; Supplier Part Number 1: 768-1026-1-ND; Supplier 2: Mouser; Supplier Part Number 2: 895-FT4232HL-TRAY; Supplier 3: Mouser; Supplier Part Number 3: 895-FT4232HL; Supplier 4: Digi-Key; Supplier Part Number 4: 768-1309-ND; Supplier 5: Newark; Supplier Part Number 5: 80P4241
footprint LQFP-64 0.5mm (TSQFP, 64-Leads, Body 10.00x10.00mm, Pitch 0.50mm, Thermal Pad 5.41x6.29mm, IPC Medium Density)
pins: 1 GND, 2 OSCI, 3 OSCO, 4 VPHY, 5 GND, 6 REF, 7 DM, 8 DP, 9 VPLL, 10 AGND, 11 GND, 12 VCORE, 13 TEST, 14 ~{RESET}, 15 GND, 16 TXD0/ADBUS0, 17 RXD0/ADBUS1, 18 -RTS0/ADBUS2, 19 -CTS0/ADBUS3, 20 VCCIO, 21 -DTR0/ADBUS4, 22 -DSR0/ADBUS5, 23 -DCD0/ADBUS6, 24 -RI0/TXDEN0/ADBUS7, 25 GND, 26 TXD1/BDBUS0, 27 RXD1/BDBUS1, 28 -RTS1/BDBUS2, 29 -CTS1/BDBUS3, 30 -DTR1/BDBUS4, 31 VCCIO, 32 -DSR1/BDBUS5, 33 -DCD1/BDBUS6, 34 -RI1/TXDEN1/BDBUS7, 35 GND, 36 ~{SUSPEND}, 37 VCORE, 38 TXD2/CDBUS0, 39 RXD2/CDBUS1, 40 -RTS2/CDBUS2, 41 -CTS2/CDBUS3, 42 VCCIO, 43 -DTR2/CDBUS4, 44 -DSR2/CDBUS5, 45 -DCD2/CDBUS6, 46 -RI2/TXDEN2/CDBUS7, 47 GND, 48 TXD3/DDBUS0, 49 VREGOUT, 50 VREGIN, 51 GND, 52 RXD3/DDBUS1, 53 -RTS3/DDBUS2, 54 -CTS3/DDBUS3, 55 -DTR3/DDBUS4, 56 VCCIO, 57 -DSR3/DDBUS5, 58 -DCD3/DDBUS6, 59 -RI3/TXDEN3/DDBUS7, 60 ~{PWREN}, 61 EEDATA, 62 EECLK, 63 EECS, 64 VCORE
text: FTDI; USB <> UART

## GS Simplex
designator U?  (no BOM)
Radio GS Simplex REVB
footprint GS Simplex
pins: F
text: GlobalStar; Simplex; Radio

## GTCS23-750M-R01-2
designator F?
GDT 75V; Supplier 1: Digi-Key; Supplier 2: Digi-Key; Supplier 3: Digi-Key; Supplier Part Number 1: GTCS23-750M-R01-2CT-ND; Supplier Part Number 2: GTCC23-750M-R01-2CT-ND; Supplier Part Number 3: F4125CT-ND
footprint 1812 GDT (Footprint not found)
pins: 1, 2

## HMHA2801AR2VCT
designator U?, comment HMHA2801AR2V
Isolator Optical; Supplier 1: Digi-Key; Supplier Part Number 1: HMHA2801AR2VCT-ND; Supplier 2: Digi-Key; Supplier 3: Digi-Key; Supplier 4: Digi-Key; Supplier Part Number 2: HMHA2801R2CT-ND; Supplier Part Number 3: HMHA2801-ND; Supplier Part Number 4: HMHA2801A-ND
footprint SOIC-4 (SOP, 4-Leads, Body 2.50x4.40mm, Pitch 1.27mm, IPC Medium Density)
pins: 1, 2, 3, 4

## HMHAA280
designator U?
Isolator Optical AC/DC; Supplier 1: Digi-Key; Supplier 2: Digi-Key; Supplier 3: Digi-Key; Supplier Part Number 1: HMHAA280-ND; Supplier Part Number 2: HMHAA280V-ND; Supplier Part Number 3: HMHAA280R2CT-ND
footprint SOIC-4 (SOP, 4-Leads, Body 2.50x4.40mm, Pitch 1.27mm, IPC Medium Density)
pins: 1, 2, 3, 4

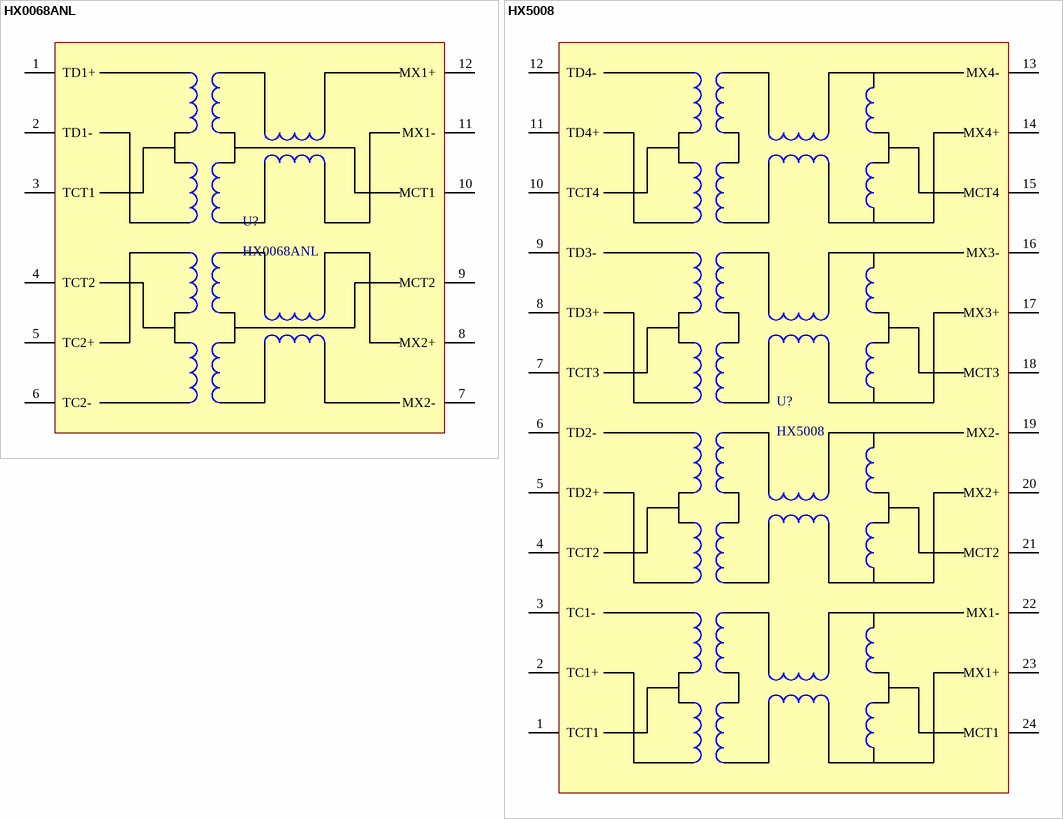
[diagram p3: symbols HX0068ANL to HX5008]

## HX0068ANL
designator U?
Isolator 100bT Pulse Transformer; Supplier 1: Digi-Key; Supplier Part Number 1: 553-2122-ND; Supplier 2: Digi-Key; Supplier 3: Digi-Key; Supplier Part Number 2: 553-2066-1-ND; Supplier Part Number 3: 553-3324-5-ND
footprint HX0068 (SOIC, 16-Leads, Body 12.70x8.81mm, Pitch 1.27mm, IPC Medium Density)
pins: 1 TD1+, 2 TD1-, 3 TCT1, 4 TCT2, 5 TC2+, 6 TC2-, 7 MX2-, 8 MX2+, 9 MCT2, 10 MCT1, 11 MX1-, 12 MX1+

## HX5008
designator U?
Isolator Gigabit Pulse Transformer; Supplier 1: Digi-Key; Supplier Part Number 1: 553-2243-ND; Supplier 2: Digi-Key; Supplier 3: Digi-Key; Supplier 4: Digi-Key; Supplier Part Number 2: 553-2244-1-ND; Supplier Part Number 3: 553-1761-1-ND; Supplier Part Number 4: 553-1344-ND
footprint HX5008 (SOP, 24-Leads, Body 16.92x17.86mm, Pitch 0.99mm, IPC Medium Density)
pins: 1 TCT1, 2 TC1+, 3 TC1-, 4 TCT2, 5 TD2+, 6 TD2-, 7 TCT3, 8 TD3+, 9 TD3-, 10 TCT4, 11 TD4+, 12 TD4-, 13 MX4-, 14 MX4+, 15 MCT4, 16 MX3-, 17 MX3+, 18 MCT3, 19 MX2-, 20 MX2+, 21 MCT2, 22 MX1-, 23 MX1+, 24 MCT1

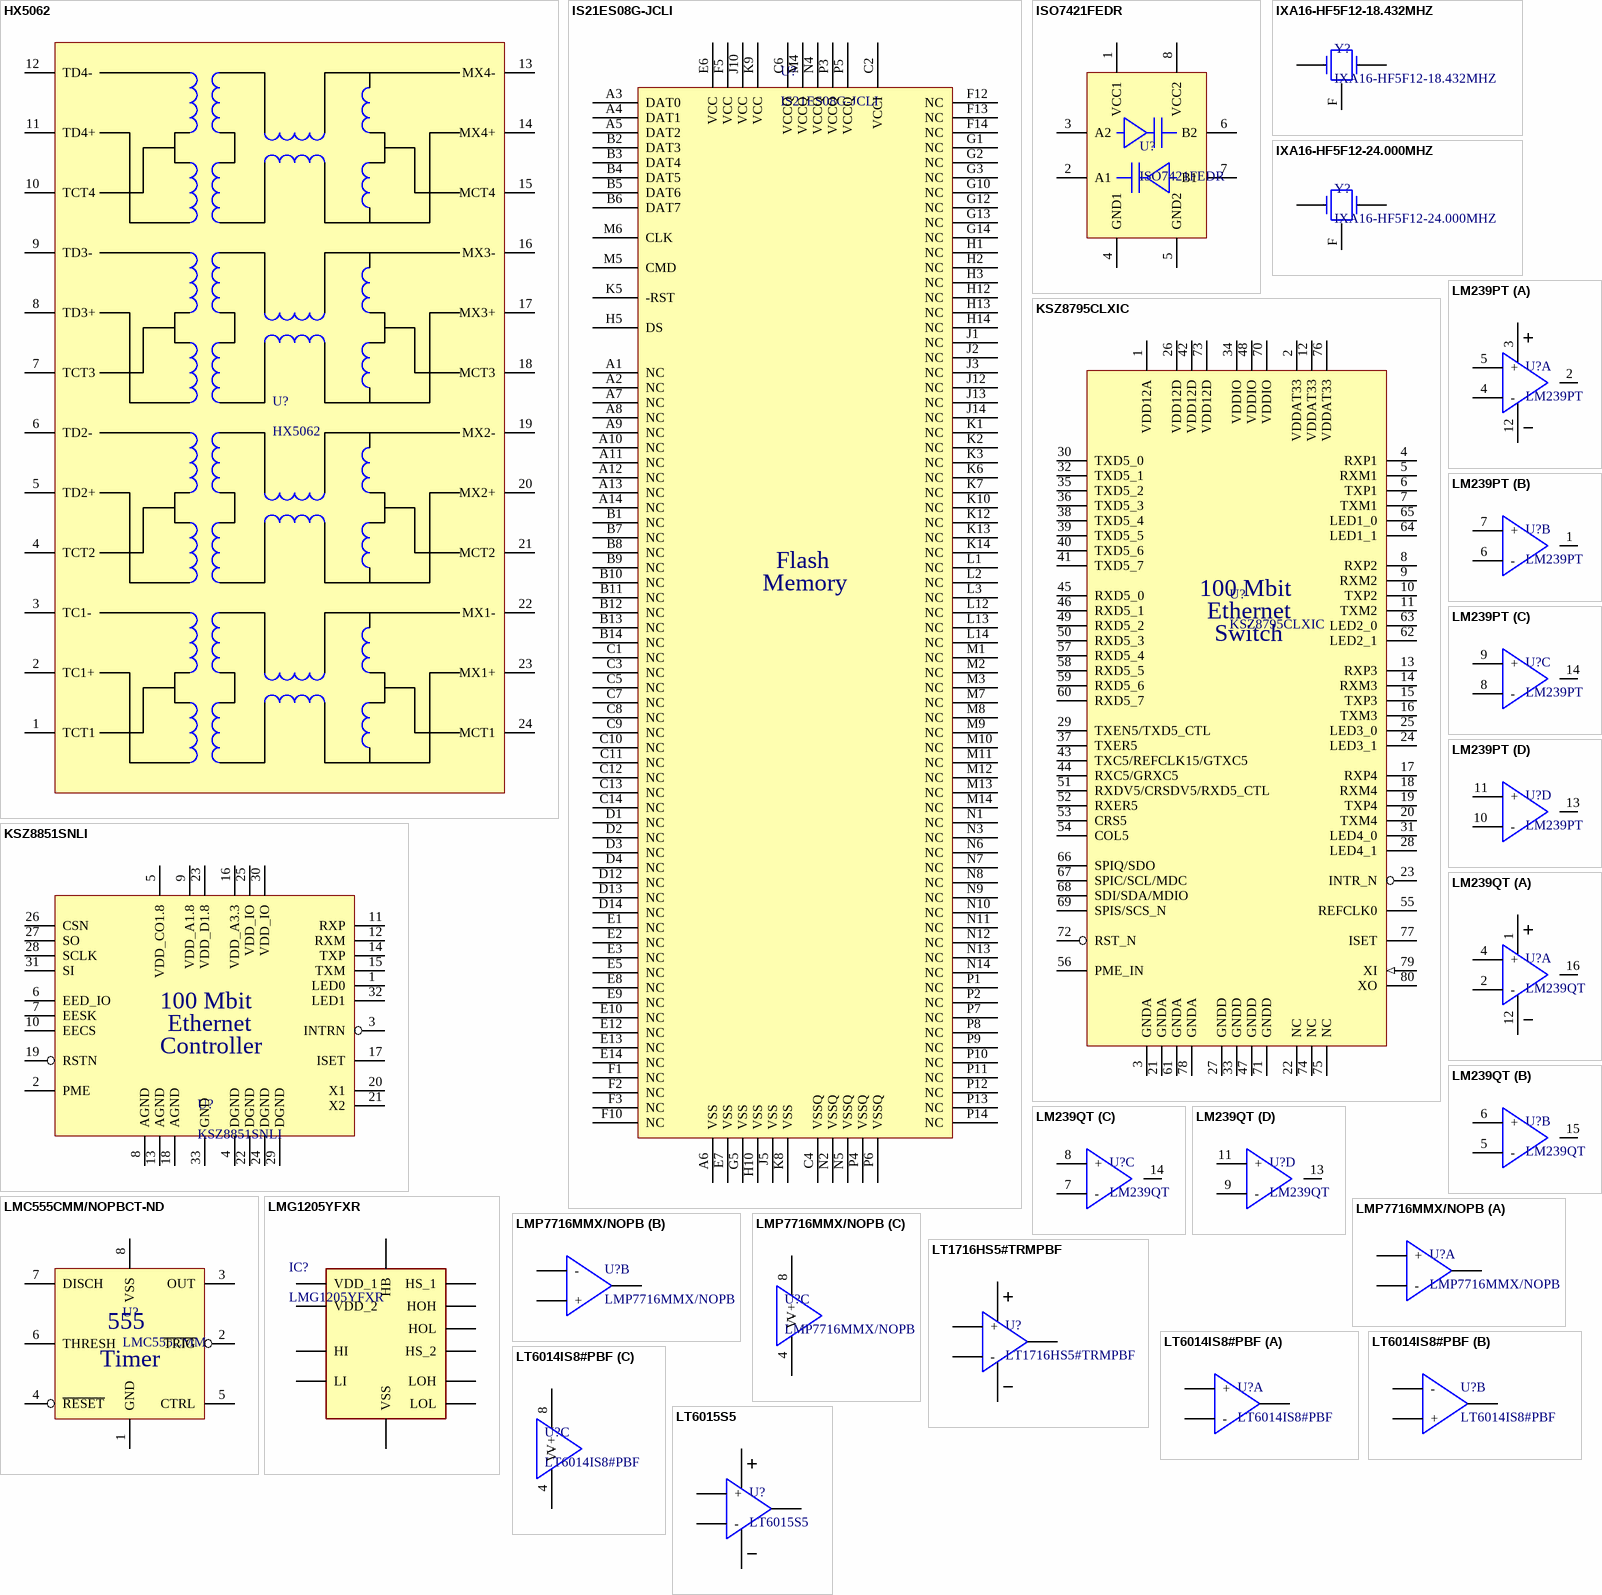
[diagram p4: symbols HX5062 to LT6015S5]

## HX5062
designator U?
Isolator Gigabit Pulse Transformer; Supplier 1: Digi-Key; Supplier 2: Digi-Key; Supplier 3: Digi-Key; Supplier Part Number 1: 553-3248-5-ND; Supplier Part Number 2: 1840-1072-1-ND; Supplier Part Number 3: 507-1728-1-ND
footprint HX5062 (SOIC, 24-Leads, Body 17.53x12.20mm, Pitch 1.27mm, IPC Medium Density)
pins: 1 TCT1, 2 TC1+, 3 TC1-, 4 TCT2, 5 TD2+, 6 TD2-, 7 TCT3, 8 TD3+, 9 TD3-, 10 TCT4, 11 TD4+, 12 TD4-, 13 MX4-, 14 MX4+, 15 MCT4, 16 MX3-, 17 MX3+, 18 MCT3, 19 MX2-, 20 MX2+, 21 MCT2, 22 MX1-, 23 MX1+, 24 MCT1

## IS21ES08G-JCLI
designator U?
IC Memory 64Gb eMMC; Supplier 1: Digi-Key; Supplier 2: Digi-Key; Supplier Part Number 1: 706-1641-ND; Supplier Part Number 2: 1052-1327-ND
footprint BGA-153 0.5mm (BGA, 153-Leads, Body 11.50x13.00mmx1.00mm, Pitch 0.50mm)
pins: A1 NC, A2 NC, A3 DAT0, A4 DAT1, A5 DAT2, A6 VSS, A7 NC, A8 NC, A9 NC, A10 NC, A11 NC, A12 NC, A13 NC, A14 NC, B1 NC, B2 DAT3, B3 DAT4, B4 DAT5, B5 DAT6, B6 DAT7, B7 NC, B8 NC, B9 NC, B10 NC, B11 NC, B12 NC, B13 NC, B14 NC, C1 NC, C2 VCCI, C3 NC, C4 VSSQ, C5 NC, C6 VCCQ, C7 NC, C8 NC, C9 NC, C10 NC, C11 NC, C12 NC, C13 NC, C14 NC, D1 NC, D2 NC, D3 NC, D4 NC, D12 NC, D13 NC, D14 NC, E1 NC, E2 NC, E3 NC, E5 NC, E6 VCC, E7 VSS, E8 NC, E9 NC, E10 NC, E12 NC, E13 NC, E14 NC, F1 NC, F2 NC, F3 NC, F5 VCC, F10 NC, F12 NC, F13 NC, F14 NC, G1 NC, G2 NC, G3 NC, G5 VSS, G10 NC, G12 NC, G13 NC, G14 NC, H1 NC, H2 NC, H3 NC, H5 DS, H10 VSS, H12 NC, H13 NC, H14 NC, J1 NC, J2 NC, J3 NC, J5 VSS, J10 VCC, J12 NC, J13 NC, J14 NC, K1 NC, K2 NC, K3 NC, K5 -RST, K6 NC, K7 NC, K8 VSS, K9 VCC, K10 NC, K12 NC, K13 NC, K14 NC, L1 NC, L2 NC, L3 NC, L12 NC, L13 NC, L14 NC, M1 NC, M2 NC, M3 NC, M4 VCCQ, M5 CMD, M6 CLK, M7 NC, M8 NC, M9 NC, M10 NC, M11 NC, M12 NC, M13 NC, M14 NC, N1 NC, N2 VSSQ, N3 NC, N4 VCCQ, N5 VSSQ, N6 NC, N7 NC, N8 NC, N9 NC, N10 NC, N11 NC, N12 NC, N13 NC, N14 NC, P1 NC, P2 NC, P3 VCCQ, P4 VSSQ, P5 VCCQ, P6 VSSQ, P7 NC, P8 NC, P9 NC, P10 NC, P11 NC, P12 NC, P13 NC, P14 NC
text: Flash; Memory

## ISO7421FEDR
designator U?
IC Interface Digital Isolator; Supplier 1: Digi-Key; Supplier Part Number 1: 296-48556-1-ND; Supplier 2: Mouser; Supplier Part Number 2: 595-ISO7421FEDR
footprint SOIC-8 (SOIC, 8-Leads, Body 4.90x3.90mm, Pitch 1.27mm, IPC Medium Density)
pins: 1 VCC1, 2 A1, 3 A2, 4 GND1, 5 GND2, 6 B2, 7 B1, 8 VCC2

## IXA16-HF5F12-18.432MHZ
designator Y?
Crystal 18.432MHz; Supplier 1: Digi-Key; Supplier Part Number 1: 1812Y2000391JAR-ND; Supplier 2: Newark; Supplier Part Number 2: 65AH7621; Supplier 3: Digi-Key; Supplier Part Number 3: 2773-EB2532JA12-18.432MCT-ND
footprint FQ Crystal
pins: 1, 3 1, F 1

## IXA16-HF5F12-24.000MHZ
designator Y?
Crystal 24MHz; Mass_g: 0.428; Supplier 1: Digi-Key; Supplier Part Number 1: 2780-IXA16-HF5F12-24.000MHZCT-ND; Supplier 2: Digi-Key; Supplier Part Number 2: 2773-EB2532JA12-24.000MCT-ND
footprint FQ Crystal
pins: 1, 3 1, F 1

## KSZ8795CLXIC
designator U?
IC Ethernet Switch 5 port 10/100; Supplier 1: Digi-Key; Supplier Part Number 1: 576-4853-ND; Supplier 2: Mouser; Supplier 3: Newark; Supplier Part Number 2: 998-KSZ8795CLXIC; Supplier Part Number 3: 30AC9690
footprint LQFP-80 0.4mm (TSQFP, 80-Leads, Body 10.00x10.00mm, Pitch 0.40mm, IPC Medium Density)
pins: 1 VDD12A, 2 VDDAT33, 3 GNDA, 4 RXP1, 5 RXM1, 6 TXP1, 7 TXM1, 8 RXP2, 9 RXM2, 10 TXP2, 11 TXM2, 12 VDDAT33, 13 RXP3, 14 RXM3, 15 TXP3, 16 TXM3, 17 RXP4, 18 RXM4, 19 TXP4, 20 TXM4, 21 GNDA, 22 NC, 23 INTR_N, 24 LED3_1, 25 LED3_0, 26 VDD12D, 27 GNDD, 28 LED4_1, 29 TXEN5/TXD5_CTL, 30 TXD5_0, 31 LED4_0, 32 TXD5_1, 33 GNDD, 34 VDDIO, 35 TXD5_2, 36 TXD5_3, 37 TXER5, 38 TXD5_4, 39 TXD5_5, 40 TXD5_6, 41 TXD5_7, 42 VDD12D, 43 TXC5/REFCLK15/GTXC5, 44 RXC5/GRXC5, 45 RXD5_0, 46 RXD5_1, 47 GNDD, 48 VDDIO, 49 RXD5_2, 50 RXD5_3, 51 RXDV5/CRSDV5/RXD5_CTL, 52 RXER5, 53 CRS5, 54 COL5, 55 REFCLK0, 56 PME_IN, 57 RXD5_4, 58 RXD5_5, 59 RXD5_6, 60 RXD5_7, 61 GNDA, 62 LED2_1, 63 LED2_0, 64 LED1_1, 65 LED1_0, 66 SPIQ/SDO, 67 SPIC/SCL/MDC, 68 SDI/SDA/MDIO, 69 SPIS/SCS_N, 70 VDDIO, 71 GNDD, 72 RST_N, 73 VDD12D, 74 NC, 75 NC, 76 VDDAT33, 77 ISET, 78 GNDA, 79 XI (in), 80 XO
text: 100 Mbit; Ethernet; Switch

## KSZ8851SNLI
designator U?
IC Ethernet Contoller 1 port 10/100; Supplier 1: Digi-Key; Supplier 2: Digi-Key; Supplier Part Number 1: 576-3506-1-ND; Supplier Part Number 2: KSZ8851SNLI-ND
footprint QFN-32 EP 0.5mm (QFN, 32-Leads, Body 5.00x5.00mm, Pitch 0.50mm, Thermal Pad 3.10x3.10mm, IPC Medium Density)
pins: 1 LED0, 2 PME, 3 INTRN, 4 DGND, 5 VDD_CO1.8, 6 EED_IO, 7 EESK, 8 AGND, 9 VDD_A1.8, 10 EECS, 11 RXP, 12 RXM, 13 AGND, 14 TXP, 15 TXM, 16 VDD_A3.3, 17 ISET, 18 AGND, 19 RSTN, 20 X1, 21 X2, 22 DGND, 23 VDD_D1.8, 24 DGND, 25 VDD_IO, 26 CSN, 27 SO, 28 SCLK, 29 DGND, 30 VDD_IO, 31 SI, 32 LED1, 33 GND
text: 100 Mbit; Ethernet; Controller

## LM239PT
designator U?
IC Comparitor quad open drain; Supplier 1: Digi-Key; Supplier 2: Digi-Key; Supplier Part Number 1: 497-4044-1-ND; Supplier Part Number 2: 497-6454-1-ND
footprint TSOP-14 0.65mm (TSOP, 14-Leads, Body 5.00x4.40mm, Pitch 0.65mm, IPC Medium Density)
footprint LGA-14 0.65mm - QFN Placement
part A pins: 2 1, 3 8, 4 -, 5 +, 12 4
part B pins: 1, 6 -, 7 +
part C pins: 8 -, 9 +, 14 1
part D pins: 10 -, 11 +, 13 1

## LM239QT
designator U?
IC Comparitor quad open drain; Supplier 1: Digi-Key; Supplier Part Number 1: 497-13140-1-ND; Supplier 2: Mouser; Supplier Part Number 2: 511-LM239QT
footprint QFN-16 0.5MM EP (QFN, 16-Leads, Body 3.00x3.00mm, Pitch 0.50mm, Thermal Pad 1.66x1.66mm, IPC Medium Density)
footprint QFN-16 0.5MM EP - Extended pads (QFN, 16-Leads, Body 3.00x3.00mm, Pitch 0.50mm, Thermal Pad 1.66x1.66mm, IPC Medium Density)
part A pins: 1 8, 2 -, 4 +, 12 4, 16 1
part B pins: 5 -, 6 +, 15 1
part C pins: 7 -, 8 +, 14 1
part D pins: 9 -, 11 +, 13 1

## LMC555CMM/NOPBCT-ND
designator U?, comment LMC555CMM
IC Timer 555; Supplier 1: Digi-Key; Supplier Part Number 1: LMC555CMM/NOPBCT-ND; Supplier 2: Digi-Key; Supplier Part Number 2: LMC555CMMX/NOPBCT-ND
footprint SOIC-8 (SOIC, 8-Leads, Body 4.90x3.90mm, Pitch 1.27mm, IPC Medium Density)
pins: 1 GND, 2 ~{TRIG}, 3 OUT, 4 ~{RESET}, 5 CTRL, 6 THRESH, 7 DISCH, 8 VSS
text: 555; Timer

## LMG1205YFXR
designator IC?
1.2-A to 5-A, Half Bridge GaN Driver with Integrated Bootstrap Diode; Manufacturer_Name: Texas Instruments; Datasheet Link: http://www.ti.com/lit/gpn/lmg1205; Height: 0.675mm; Manufacturer_Part_Number: LMG1205YFXR; Mouser Part Number: 595-LMG1205YFXR; Mouser Price/Stock: https://www.mouser.co.uk/ProductDetail/Texas-Instruments/LMG1205YFXR?qs=u4fy%2FsgLU9NPoVE%252Ba8gN4Q%3D%3D; Arrow Part Number: LMG1205YFXR; Arrow Price/Stock: https://www.arrow.com/en/products/lmg1205yfxr/texas-instruments?region=nac; Supplier 1: Digi-Key; Supplier 2: Mouser; Supplier Part Number 1: 296-48589-1-ND; Supplier Part Number 2: 595-LMG1205YFXR
footprint BGA12C40P4X4_173X188X68
pins: A1 LOL, A2 VSS, A3 VDD_1, A4 LI, B1 LOH, B4 HI, C1 HS_1, C4 VDD_2, D1 HOL, D2 HOH, D3 HB, D4 HS_2

## LMP7716MMX/NOPB
designator U?
IC opamp pair; Mass_g: 0.0265; Supplier 1: Digi-Key; Supplier Part Number 1: 296-LMP7716MMX/NOPBCT-ND; Supplier 2: Mouser; Supplier Part Number 2: 926-LMP7716MMX/NOPB
footprint TSOP-8 0.65mm (TSOP, 8-Leads, Body 3.00x3.00mm, Pitch 0.65mm, IPC Medium Density)
part A pins: 1, 2 -, 3 +
part B pins: 5 +, 6 -, 7 (hiz)
part C pins: 4 V-, 8 V+

## LT1716HS5#TRMPBF
designator U?
IC Comparitor; Mass_g: 0.0126; Supplier 1: Digi-Key; Supplier Part Number 1: LT1716HS5#TRMPBFCT-ND; Supplier 2: Digi-Key; Supplier 3: Digi-Key; Supplier 4: Digi-Key; Supplier Part Number 2: LT1716CS5#TRMPBFCT-ND; Supplier Part Number 3: LT1716IS5#TRMPBFCT-ND; Supplier Part Number 4: LT1716IS5#TRPBFCT-ND
footprint SOT23-5 (SOT23, 5-Leads, Body 2.90x2.45mm, Pitch 0.95mm, IPC Medium Density)
pins: 1, 2 4, 3 +, 4 -, 5 8

## LT6014IS8#PBF
designator U?
IC opamp pair; Mass_g: 0.076; Supplier 1: Digi-Key; Supplier Part Number 1: LT6014IS8#PBF-ND; Supplier 2: Digi-Key; Supplier 3: Digi-Key; Supplier 4: Digi-Key; Supplier Part Number 2: LT6014AIS8#PBF-ND; Supplier Part Number 3: 296-30291-1-ND; Supplier Part Number 4: 296-39108-5-ND
footprint SOIC-8 (SOIC, 8-Leads, Body 4.90x3.90mm, Pitch 1.27mm, IPC Medium Density)
footprint SOIC-8 - flipped (SOIC, 8-Leads, Body 4.90x3.90mm, Pitch 1.27mm, IPC Medium Density)
part A pins: 1, 2 -, 3 +
part B pins: 5 +, 6 -, 7 (hiz)
part C pins: 4 V-, 8 V+

## LT6015S5
designator U?
IC Opamp; Supplier 1: Digi-Key; Supplier Part Number 1: LT6015IS5#TRMPBFCT-ND; Supplier 2: Digi-Key; Supplier Part Number 2: LT6015HS5#TRMPBFCT-ND; Supplier 3: Digi-Key; Supplier Part Number 3: LT6015HS5#TRPBFCT-ND; Supplier 4: Digi-Key; Supplier Part Number 4: LT1783IS5#TRMPBFCT-ND; Supplier 5: Mouser; Supplier Part Number 5: 584-LT1783IS5#TRMPBF; Supplier 6: Digi-Key; Supplier Part Number 6: 505-LT1784IS5#TRPBFCT-ND; Supplier 7: Digi-Key; Supplier Part Number 7: LT1800IS5#TRMPBFCT-ND
footprint SOT23-5 (SOT23, 5-Leads, Body 2.90x2.45mm, Pitch 0.95mm, IPC Medium Density)
pins: 1, 2 4, 3 +, 4 -, 5 8

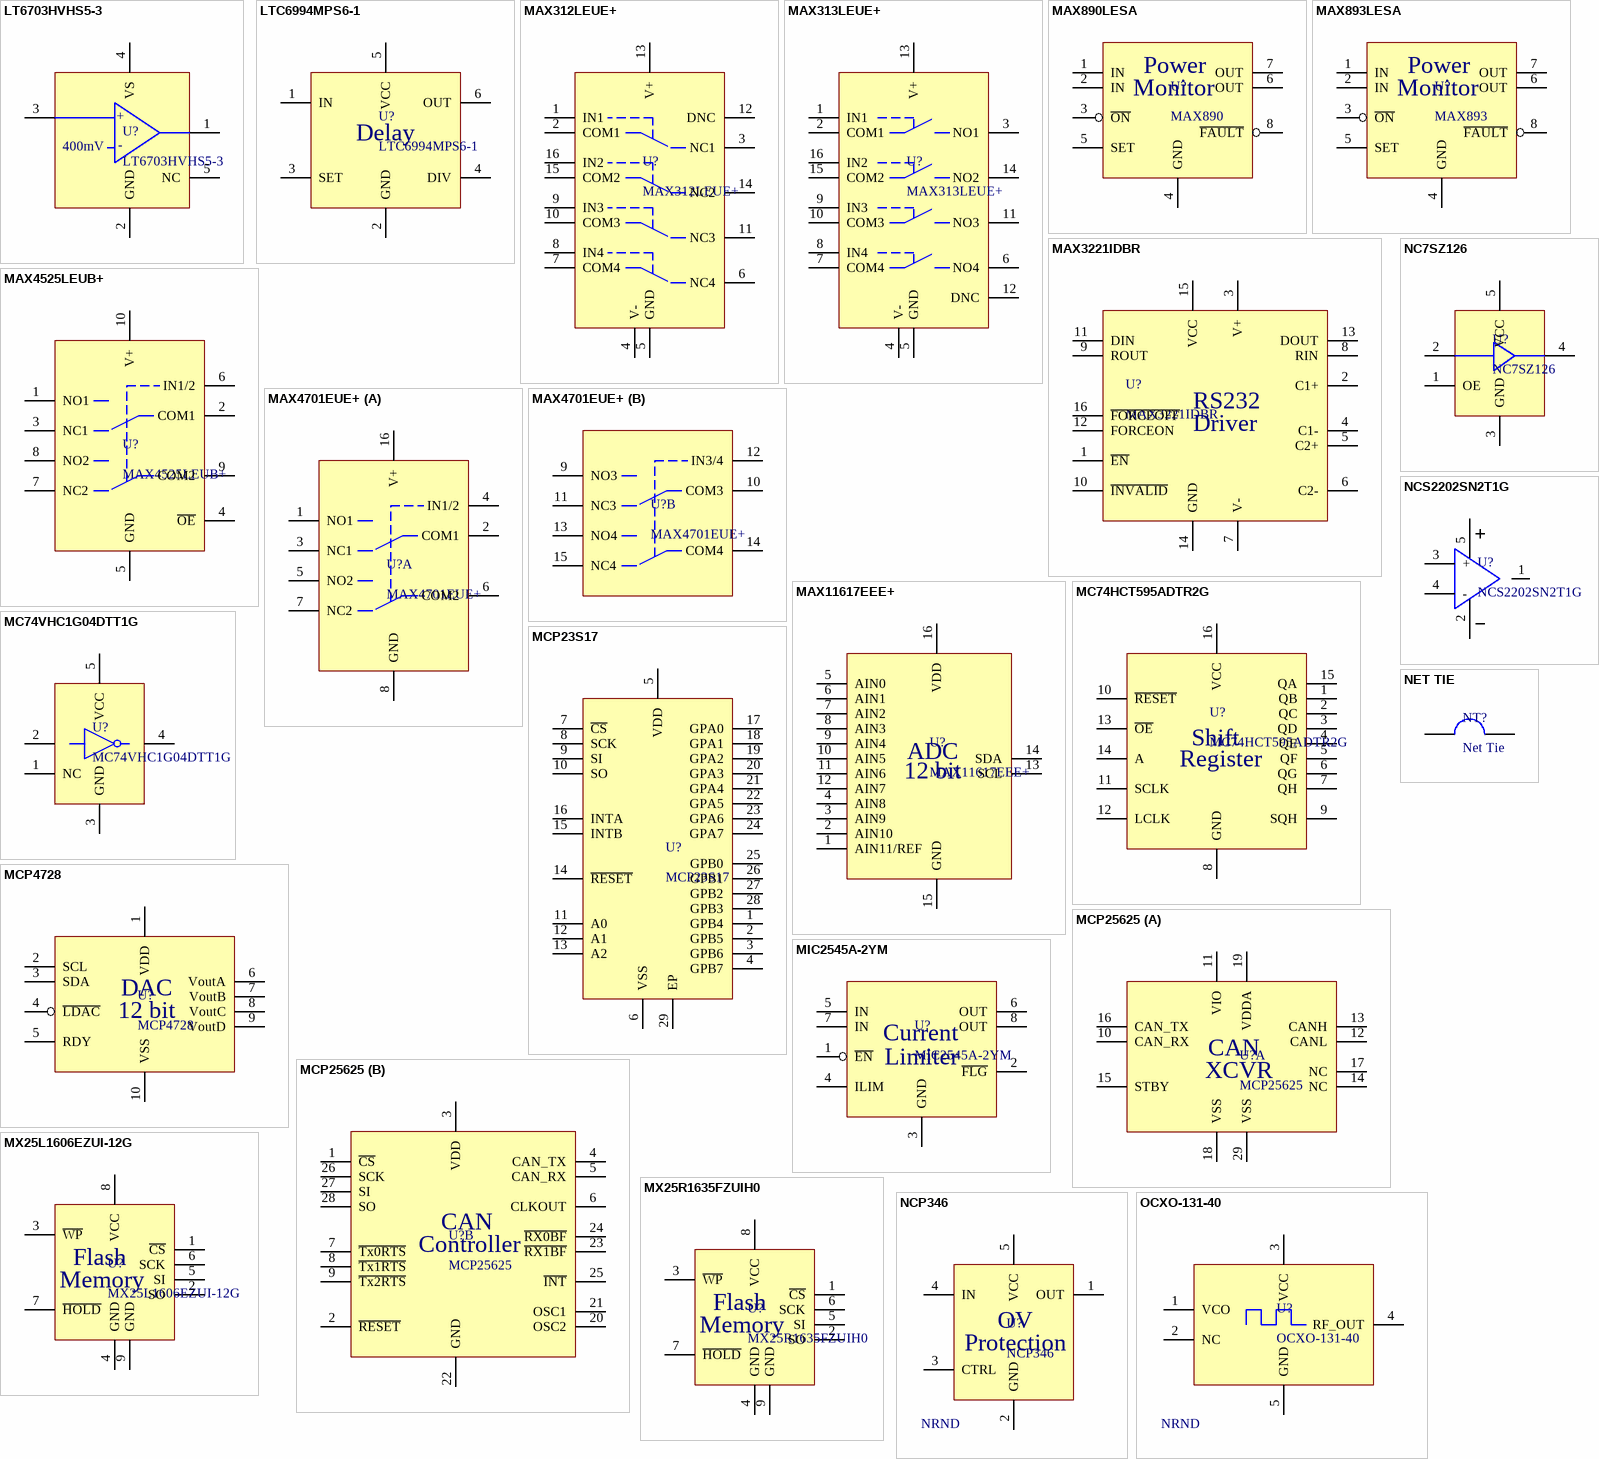
[diagram p5: symbols LT6703HVHS5-3 to OCXO-131-40]

## LT6703HVHS5-3
designator U?
IC Comparator with internal reference; Supplier 1: Digi-Key; Supplier 2: Digi-Key; Supplier 3: Mouser; Supplier Part Number 1: LT6703HVHS5-3#TRMPBFCT-ND; Supplier Part Number 2: LT6703HVIS5-3#TRPBFCT-ND; Supplier Part Number 3: 584-6703HVHS5-3TMPF
footprint SOT23-5 (SOT23, 5-Leads, Body 2.90x2.45mm, Pitch 0.95mm, IPC Medium Density)
pins: 1, 2 GND, 3 +, 4 VS, 5 NC
text: 400mV; -

## LTC6994MPS6-1
designator U?
IC Delay Line Adjustable; Supplier 1: Digi-Key; Supplier Part Number 1: LTC6994MPS6-1#TRMPBFCT-ND; Supplier 2: Digi-Key; Supplier Part Number 2: LTC6994HS6-1#TRMPBFCT-ND
footprint SOT23-6 (SOT23, 6-Leads, Body 2.90x2.45mm, Pitch 0.95mm, IPC Medium Density)
pins: 1 IN, 2 GND, 3 SET, 4 DIV, 5 VCC, 6 OUT
text: Delay

## MAX312LEUE+
designator U?
IC Analog Switch 4 input NC; Supplier 1: Digi-Key; Supplier Part Number 1: MAX312LEUE+-ND; Supplier 2: Mouser; Supplier Part Number 2: 700-MAX312LEUE
footprint TSOP-16 0.65mm
pins: 1 IN1, 2 COM1, 3 NC1, 4 V-, 5 GND, 6 NC4, 7 COM4, 8 IN4, 9 IN3, 10 COM3, 11 NC3, 12 DNC, 13 V+, 14 NC2, 15 COM2, 16 IN2

## MAX313LEUE+
designator U?
IC Analog Switch 4 input NO; Supplier 1: Digi-Key; Supplier Part Number 1: MAX313LEUE+-ND; Supplier 2: Mouser; Supplier Part Number 2: 700-MAX313LEUE
footprint TSOP-16 0.65mm
pins: 1 IN1, 2 COM1, 3 NO1, 4 V-, 5 GND, 6 NO4, 7 COM4, 8 IN4, 9 IN3, 10 COM3, 11 NO3, 12 DNC, 13 V+, 14 NO2, 15 COM2, 16 IN2

## MAX890LESA
designator U?, comment MAX890
IC Power Monitor; Supplier 1: Digi-Key; Supplier Part Number 1: MAX890LESA+-ND; Supplier 2: Digi-Key; Supplier Part Number 2: MAX890LESA+CT-ND; Supplier 3: Mouser; Supplier 4: Mouser; Supplier Part Number 3: 700-MAX890LESA; Supplier Part Number 4: 700-MAX890LESAT
footprint SOIC-8 (SOIC, 8-Leads, Body 4.90x3.90mm, Pitch 1.27mm, IPC Medium Density)
pins: 1 IN, 2 IN, 3 ~{ON} (hiz), 4 GND, 5 SET, 6 OUT, 7 OUT, 8 ~{FAULT}
text: Power; Monitor

## MAX893LESA
designator U?, comment MAX893
IC Power Monitor; Mass_g: 0.5066; Supplier 1: Digi-Key; Supplier Part Number 1: MAX893LESA+-ND; Supplier 2: Mouser; Supplier Part Number 2: 700-MAX893LESA
footprint SOIC-8 (SOIC, 8-Leads, Body 4.90x3.90mm, Pitch 1.27mm, IPC Medium Density)
pins: 1 IN, 2 IN, 3 ~{ON} (hiz), 4 GND, 5 SET, 6 OUT, 7 OUT, 8 ~{FAULT}
text: Power; Monitor

## MAX3221IDBR
designator U?
IC Driver RS232; Supplier 1: Digi-Key; Supplier Part Number 1: 296-9595-1-ND; Supplier 2: Digi-Key; Supplier Part Number 2: 296-19826-1-ND
footprint SSOP-16 0.65mm (SOP, 16-Leads, Body 6.20x5.30mm, Pitch 0.65mm, IPC Medium Density)
pins: 1 ~{EN}, 2 C1+, 3 V+, 4 C1-, 5 C2+, 6 C2-, 7 V-, 8 RIN, 9 ROUT, 10 ~{INVALID}, 11 DIN, 12 FORCEON, 13 DOUT, 14 GND, 15 VCC, 16 ~{FORCEOFF}
text: RS232; Driver

## MAX4525LEUB+
designator U?
IC Analog Switch DPDT; Supplier 1: Digi-Key; Supplier Part Number 1: MAX4525LEUB+-ND; Supplier 2: Digi-Key; Supplier 3: Mouser; Supplier Part Number 2: MAX4525EUB+-ND; Supplier Part Number 3: 700-MAX4525LEUB
footprint MSOP-10 0.5mm (TSSOP, 10-Leads, Body 3.00x3.00mm, Pitch 0.50mm, IPC Medium Density)
pins: 1 NO1, 2 COM1, 3 NC1, 4 ~{OE}, 5 GND, 6 IN1/2, 7 NC2, 8 NO2, 9 COM2, 10 V+

## MAX4701EUE+
designator U?
IC Analog Switch 2x DPDT; Supplier 1: Digi-Key; Supplier Part Number 1: MAX4701EUE+-ND; Supplier 2: Newark; Supplier 3: Mouser; Supplier Part Number 2: 73Y4465; Supplier Part Number 3: 700-MAX4701EUE
footprint TSOP-16 0.65mm
part A pins: 1 NO1, 2 COM1, 3 NC1, 4 IN1/2, 5 NO2, 6 COM2, 7 NC2, 8 GND, 16 V+
part B pins: 9 NO3, 10 COM3, 11 NC3, 12 IN3/4, 13 NO4, 14 COM4, 15 NC4

## MAX11617EEE+
designator U?
IC ADC 12 bit 12 input; Supplier 1: Digi-Key; Supplier Part Number 1: MAX11617EEE+-ND; Supplier 2: Mouser; Supplier 3: Digi-Key; Supplier Part Number 2: 700-MAX11617EEE; Supplier Part Number 3: MAX1239EEE+-ND
footprint TSOP-16 0.65mm
pins: 1 AIN11/REF, 2 AIN10, 3 AIN9, 4 AIN8, 5 AIN0, 6 AIN1, 7 AIN2, 8 AIN3, 9 AIN4, 10 AIN5, 11 AIN6, 12 AIN7, 13 SCL, 14 SDA, 15 GND, 16 VDD
text: ADC; 12 bit

## MC74HCT595ADTR2G
designator U?
IC Shift Register; Supplier 1: Digi-Key; Supplier Part Number 1: MC74HCT595ADTR2GOSCT-ND; Supplier 2: Digi-Key; Supplier 3: Digi-Key; Supplier Part Number 2: 1727-3068-1-ND; Supplier Part Number 3: 1727-6439-ND
footprint TSOP-16 0.65mm
pins: 1 QB, 2 QC, 3 QD, 4 QE, 5 QF, 6 QG, 7 QH, 8 GND, 9 SQH, 10 ~{RESET}, 11 SCLK, 12 LCLK, 13 ~{OE}, 14 A, 15 QA, 16 VCC
text: Shift; Register

## MC74VHC1G04DTT1G
designator U?
IC Logic Inverter; Supplier 1: Digi-Key; Supplier 2: Mouser; Supplier Part Number 1: MC74VHC1G04DTT1GOSCT-ND; Supplier Part Number 2: 863-MC74VHC1G04DTT1G
footprint SOT23-5 (SOT23, 5-Leads, Body 2.90x2.45mm, Pitch 0.95mm, IPC Medium Density)
pins: 1 NC, 2 5, 3 GND, 4 11, 5 VCC

## MCP23S17
designator U?
IC SPI IO Expander; Manufacturer: NXP Semiconductors; Supplier 1: Digi-Key; Supplier 2: Digi-Key; Supplier Part Number 1: MCP23S17-E/ML-ND; Supplier Part Number 2: MCP23S17T-E/MLCT-ND
footprint QFN-28 EP 0.65mm (QFN, 28-Leads, Body 6.00x6.00mm, Pitch 0.65mm, Thermal Pad 3.93x3.93mm, IPC Medium Density)
pins: 1 GPB4, 2 GPB5, 3 GPB6, 4 GPB7, 5 VDD, 6 VSS, 7 ~{CS}, 8 SCK, 9 SI, 10 SO, 11 A0, 12 A1, 13 A2, 14 ~{RESET}, 15 INTB, 16 INTA, 17 GPA0, 18 GPA1, 19 GPA2, 20 GPA3, 21 GPA4, 22 GPA5, 23 GPA6, 24 GPA7, 25 GPB0, 26 GPB1, 27 GPB2, 28 GPB3, 29 EP

## MCP4728
designator U?
IC DAC 4 Channel; Supplier 1: Digi-Key; Supplier Part Number 1: MCP4728-E/UN-ND; Supplier 2: Digi-Key; Supplier Part Number 2: MCP4728T-E/UNCT-ND
footprint MSOP-10 0.5mm (TSSOP, 10-Leads, Body 3.00x3.00mm, Pitch 0.50mm, IPC Medium Density)
pins: 1 VDD, 2 SCL, 3 SDA, 4 ~{LDAC}, 5 RDY, 6 VoutA, 7 VoutB, 8 VoutC, 9 VoutD, 10 VSS
text: DAC; 12 bit

## MCP25625
designator U?
IC Interface SPI-CAN Transceiver; Supplier 1: Digi-Key; Supplier 2: Digi-Key; Supplier Part Number 1: MCP25625T-E/MLCT-ND; Supplier Part Number 2: MCP25625-E/ML-ND
footprint QFN-28 EP 0.65mm (QFN, 28-Leads, Body 6.00x6.00mm, Pitch 0.65mm, Thermal Pad 3.93x3.93mm, IPC Medium Density)
part A pins: 10 CAN_RX, 11 VIO, 12 CANL, 13 CANH, 14 NC, 15 STBY, 16 CAN_TX, 17 NC, 18 VSS, 19 VDDA, 29 VSS
part B pins: 1 ~{CS}, 2 ~{RESET}, 3 VDD, 4 CAN_TX, 5 CAN_RX, 6 CLKOUT, 7 ~{Tx0RTS}, 8 ~{Tx1RTS}, 9 ~{Tx2RTS}, 20 OSC2, 21 OSC1, 22 GND, 23 ~{RX1BF}, 24 ~{RX0BF}, 25 ~{INT}, 26 SCK, 27 SI, 28 SO
part A text: CAN; XCVR
part B text: CAN; Controller

## MIC2545A-2YM
designator U?
IC Current Limiter; Supplier 1: Digi-Key; Supplier Part Number 1: 576-1740-5-ND; Supplier 2: Mouser; Supplier 3: Mouser; Supplier Part Number 2: 998-MIC2545A-2YMTR; Supplier Part Number 3: 998-MIC2545A-2YM
footprint SOIC-8 (SOIC, 8-Leads, Body 4.90x3.90mm, Pitch 1.27mm, IPC Medium Density)
pins: 1 ~{EN}, 2 ~{FLG}, 3 GND, 4 ILIM, 5 IN, 6 OUT, 7 IN, 8 OUT
text: Current; Limiter

## MX25L1606EZUI-12G
designator U?
IC Memory FLASH 16Mb; Supplier 1: Digi-Key; Supplier 2: Digi-Key; Supplier Part Number 1: 1092-1056-ND; Supplier Part Number 2: 1092-1058-ND
footprint SON-8 0.8mm EP (SON, 8-Leads, Body 4.00x4.00mm, Pitch 0.80mm, Thermal Pad 3.00x2.30mm, IPC Medium Density)
pins: 1 ~{CS}, 2 SO, 3 ~{WP}, 4 GND, 5 SI, 6 SCK, 7 ~{HOLD}, 8 VCC, 9 GND
text: Flash; Memory

## MX25R1635FZUIH0
designator U?
IC Memory FLASH 16Mb; Supplier 1: Digi-Key; Supplier 2: Digi-Key; Supplier Part Number 1: 1092-1178-1-ND; Supplier Part Number 2: 1092-1204-1-ND
footprint SON-8 0.5mm EP (SON, 8-Leads, Body 2.00x3.00mm, Pitch 0.50mm, Thermal Pad 1.60x0.20mm, IPC Medium Density)
pins: 1 ~{CS}, 2 SO, 3 ~{WP}, 4 GND, 5 SI, 6 SCK, 7 ~{HOLD}, 8 VCC, 9 GND
text: Flash; Memory

## NC7SZ126
designator U?
IC Logic 1 bit buffer; Supplier 1: Digi-Key; Supplier Part Number 1: NC7SZ126M5XCT-ND; Supplier 2: Mouser; Supplier Part Number 2: 512-NC7SZ126M5X; Supplier 3: Digi-Key; Supplier 4: Digi-Key; Supplier Part Number 3: 296-11605-1-ND; Supplier Part Number 4: 296-32293-1-ND
footprint SOT23-5 (SOT23, 5-Leads, Body 2.90x2.45mm, Pitch 0.95mm, IPC Medium Density)
pins: 1 OE, 2, 3 GND, 4 2, 5 VCC

## NCP346
designator U?
IC Over voltage protection; Supplier 1: Digi-Key; Supplier Part Number 1: NCP346SN2T1GOSCT-ND; NRND: NRND
footprint SOT23-5 (SOT23, 5-Leads, Body 2.90x2.45mm, Pitch 0.95mm, IPC Medium Density)
pins: 1 OUT, 2 GND, 3 CTRL, 4 IN, 5 VCC
text: OV; Protection

## NCS2202SN2T1G
designator U?
IC Comparitor open drain; Supplier 1: Digi-Key; Supplier 2: Digi-Key; Supplier Part Number 1: 488-NCS2202SN2T1GCT-ND; Supplier Part Number 2: NCS2252SN2T1GOSCT-ND
footprint SOT23-5 (SOT23, 5-Leads, Body 2.90x2.45mm, Pitch 0.95mm, IPC Medium Density)
pins: 1, 2 4, 3 +, 4 -, 5 8

## NET TIE
designator NT?, comment Net Tie  (net tie, no BOM)
Net tie component
footprint NET TIE VIA
footprint NET TIE TH OUTSIDE
footprint NET TIE SURFACE OUTSIDE
footprint NET TIE SURFACE OUTSIDE TINY
pins: 1, 2

## OCXO-131-40
designator U?  (no BOM)
OCXO; NRND: NRND
footprint OCXO-131
pins: 1 VCO, 2 NC, 3 VCC, 4 RF_OUT, 5 GND

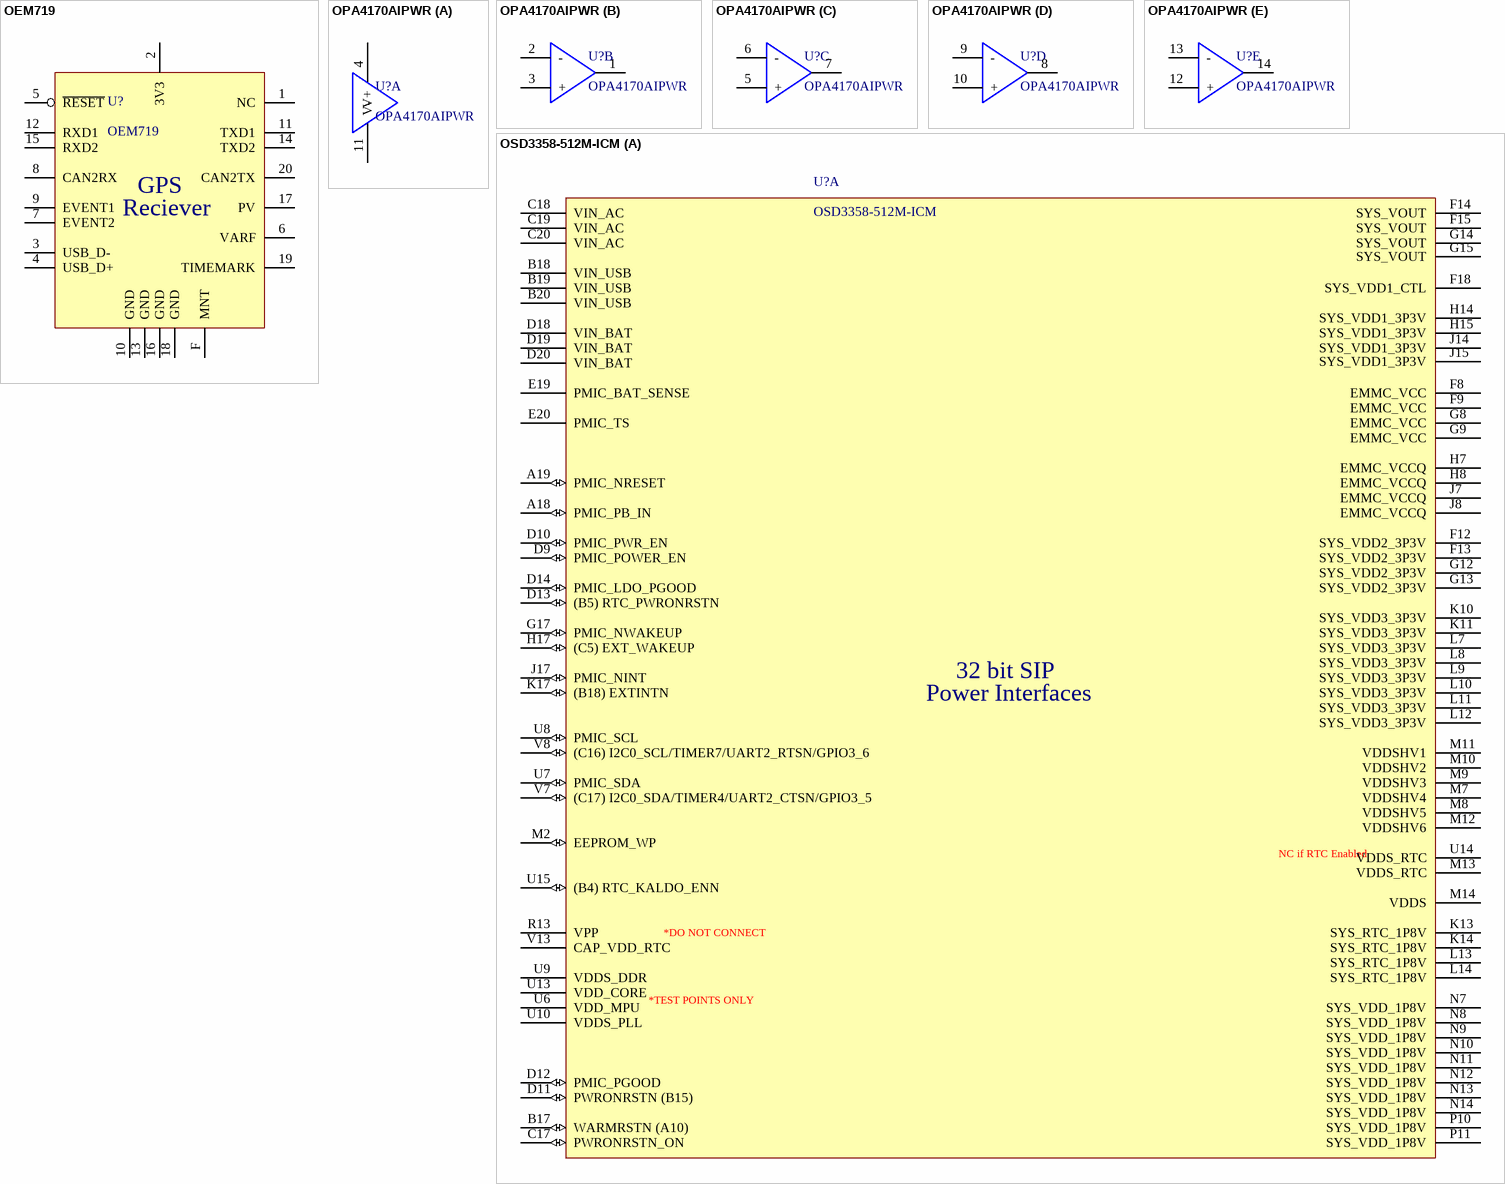
[diagram p6: symbols OEM719 to OSD3358-512M-ICM]

## OEM719
designator U?
GPS Reciever; Supplier 1: Digi-Key; Supplier Part Number 1: SAM12500-ND
footprint OEM719
pins: 1 NC, 2 3V3, 3 USB_D-, 4 USB_D+, 5 ~{RESET}, 6 VARF, 7 EVENT2, 8 CAN2RX, 9 EVENT1, 10 GND, 11 TXD1, 12 RXD1, 13 GND, 14 TXD2, 15 RXD2, 16 GND, 17 PV, 18 GND, 19 TIMEMARK, 20 CAN2TX, F MNT
text: GPS; Reciever

## OPA4170AIPWR
designator U?
IC opamp quad; Supplier 1: Digi-Key; Supplier Part Number 1: 296-30239-1-ND; Supplier 2: Digi-Key; Supplier Part Number 2: 296-29651-1-ND; Supplier 3: Digi-Key; Supplier Part Number 3: 296-44866-1-ND; Supplier 4: Digi-Key; Supplier Part Number 4: AD8040ARUZ-REEL7CT-ND; Supplier 5: Digi-Key; Supplier Part Number 5: MAX4454EUD+-ND
footprint TSOP-14 0.65mm (TSOP, 14-Leads, Body 5.00x4.40mm, Pitch 0.65mm, IPC Medium Density)
part A pins: 4 V+, 11 V-
part B pins: 1, 2 -, 3 +
part C pins: 5 +, 6 -, 7 1 (hiz)
part D pins: 8 1 (hiz), 9 -, 10 +
part E pins: 12 +, 13 -, 14 1

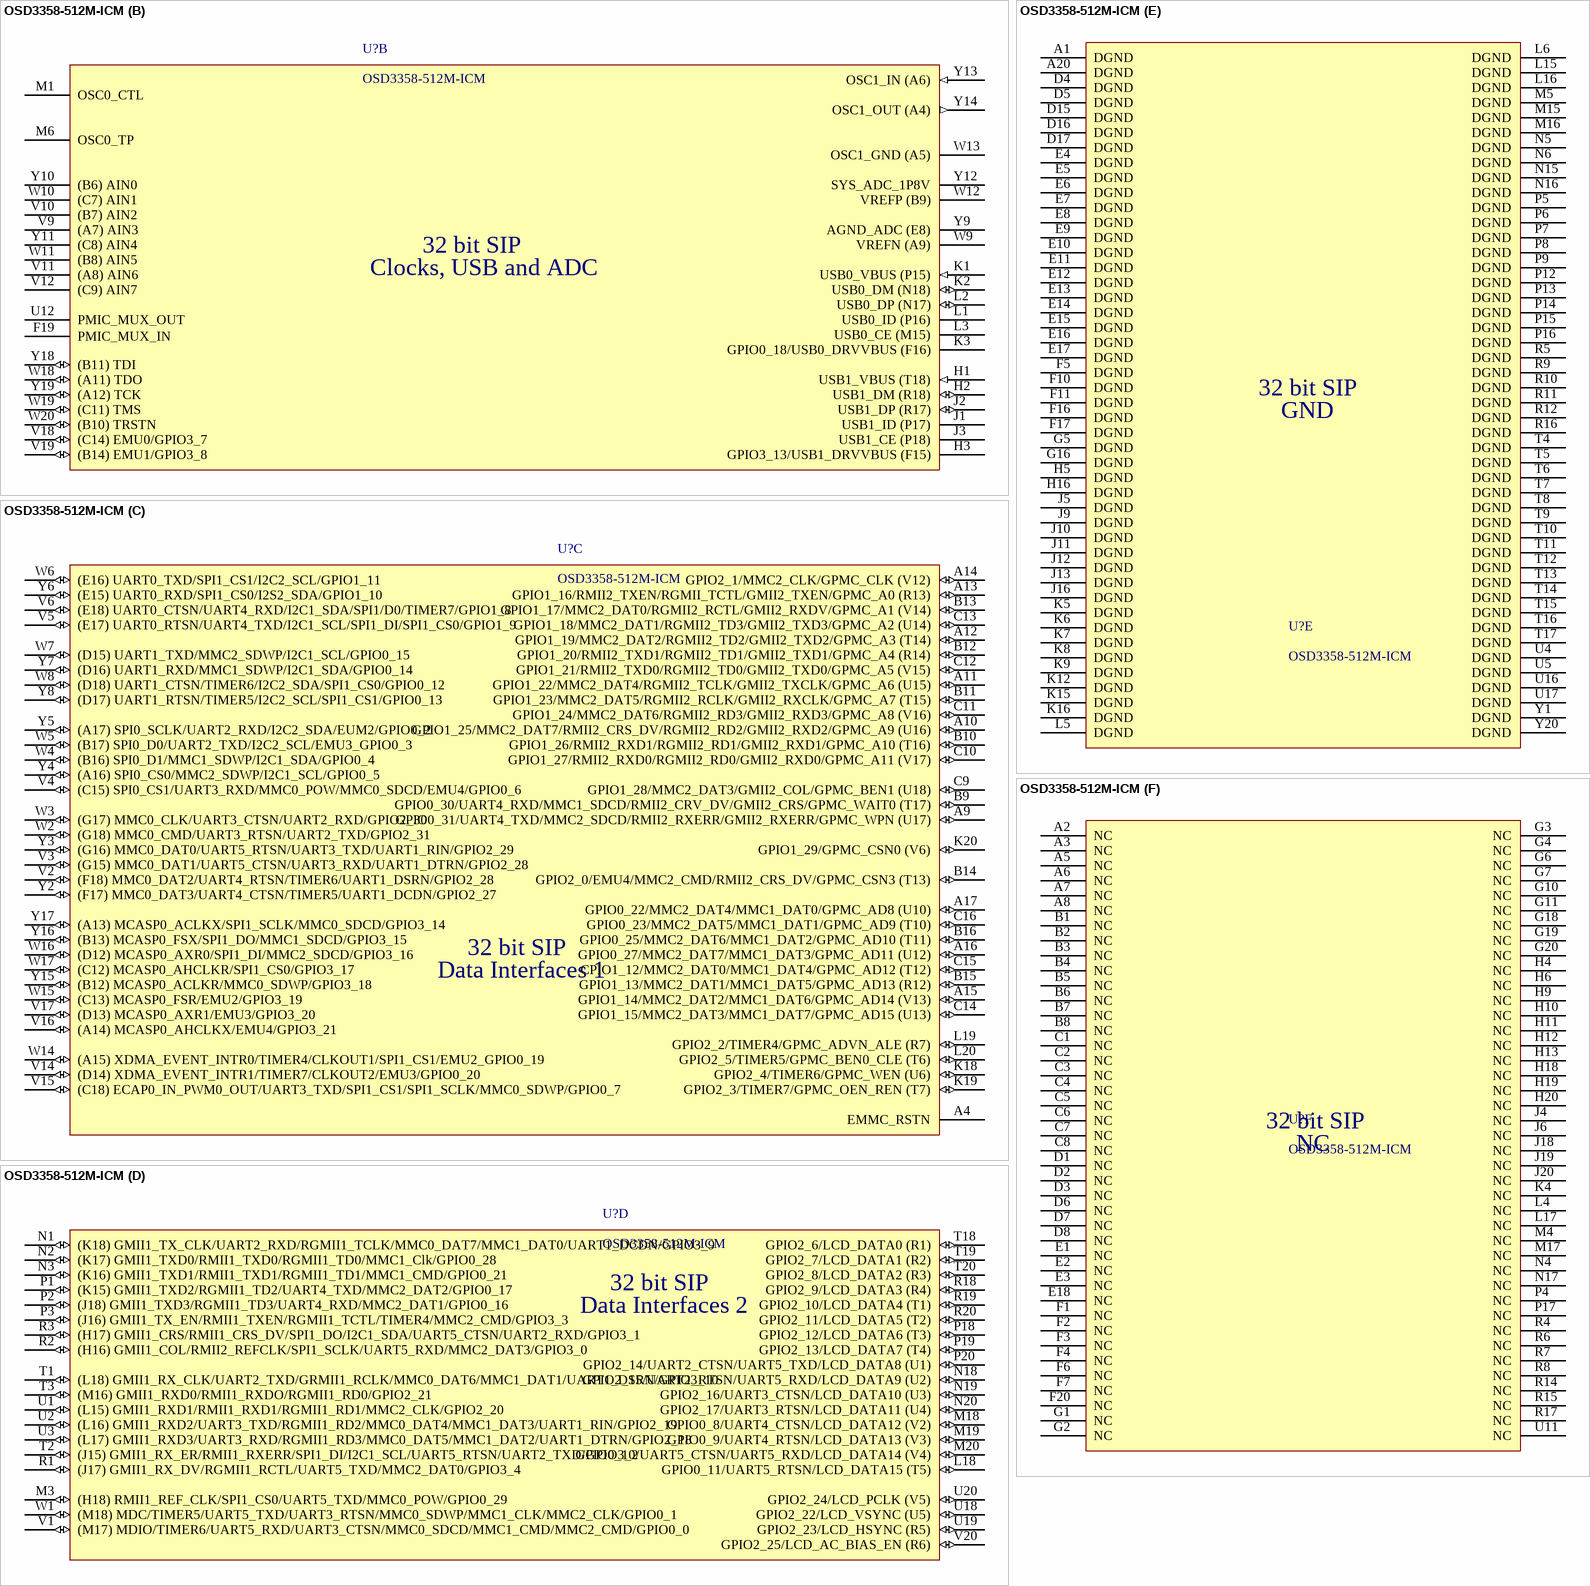
[diagram p7: symbol OSD3358-512M-ICM]